# Altium integrated library Xilinx XC4000XL.IntLib: 450 symbols (part 14 of 58)
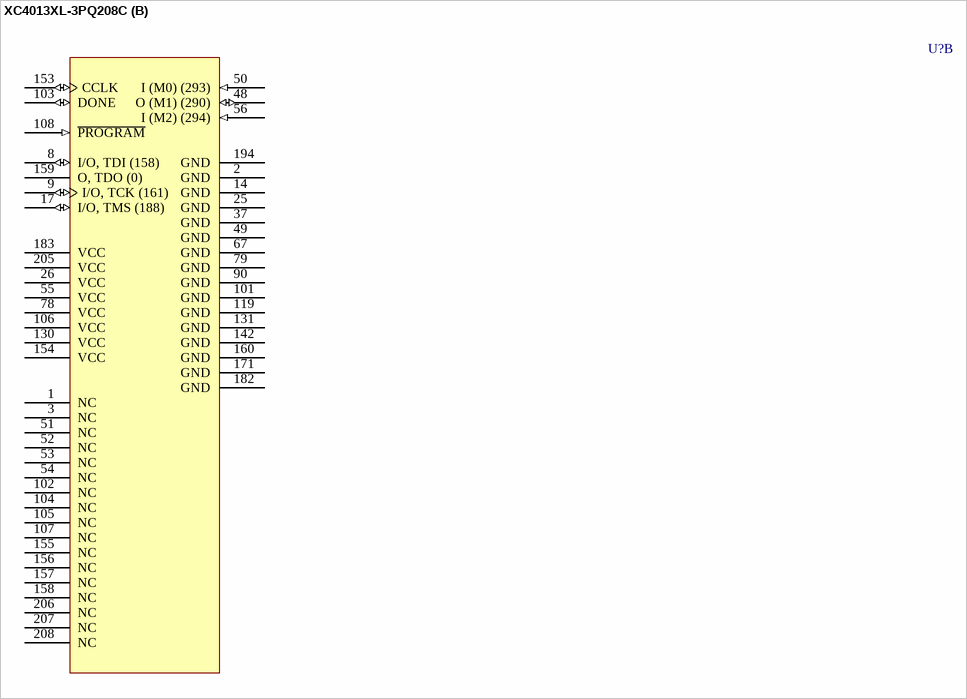
[diagram p412: symbol XC4013XL-3PQ208C]

## XC4013XL-3PQ208C
designator U?
XC4000XL FPGA, 160 I/Os, 208-Pin PQFP, Speed Grade 3, Commercial Grade; Published: 28-Feb-2003; LatestRevisionDate: 13-Apr-2006; LatestRevisionNote: IPC-7351 Footprint Added.; DatasheetVersion: ver1.6, May-1999; PackageVersion: ver1.2, Jun-2004; PackageReference: PQ208; Publisher: Altium Limited; PackageDescription: 208-Pin Plastic Quad Flat Pack (PQ208); Supplier 1: Digi-Key; Supplier Part Number 1: XC4013XL-3PQ208C-ND; Code_JEDEC: MS-029-FA-1; ComponentLink1Description: XC4000XL Datasheet; ComponentLink1URL: http://www.xilinx.com/support/documentation/data_sheets/4000.pdf; ComponentLink2Description: PQ208 Package Drawing; ComponentLink2URL: http://www.xilinx.com/support/documentation/package_specs/pq208.pdf; ComponentLink3Description: XC4000 Documents; ComponentLink3URL: http://www.xilinx.com/support/documentation/xc4000.htm; ComponentLink4Description: Xilinx.com Home; ComponentLink4URL: http://www.xilinx.com
footprint PQ208_N (Shrink QFP, 208-Leads, Body 28x28mm, Pitch 0.5mm, IPC Medium Density)
footprint PQ208_L (Shrink QFP, 208-Leads, Body 28x28mm, Pitch 0.5mm, IPC High Density)
footprint PQ208_M (Shrink QFP, 208-Leads, Body 28x28mm, Pitch 0.5mm, IPC Low Density)
part A pins: 4 I/O, GCK1 (A16) (146) (io), 5 I/O (A17) (149) (io), 6 I/O (152) (io), 7 I/O (155) (io), 10 I/O (164) (io), 11 I/O (167) (io), 12 I/O (170) (io), 13 I/O (173) (io), 15 I/O (182) (io), 16 I/O (185) (io), 18 I/O (191) (io), 19 I/O (200) (io), 20 I/O (203) (io), 21 I/O (206) (io), 22 I/O (209) (io), 23 I/O (212) (io), 24 I/O (215) (io), 27 I/O (218) (io), 28 I/O (221) (io), 29 I/O (224) (io), 30 I/O (227) (io), 31 I/O (230) (io), 32 I/O (233) (io), 33 I/O (242) (io), 34 I/O (245) (io), 35 I/O (248) (io), 36 I/O (251) (io), 38 I/O (260) (io), 39 I/O (263) (io), 40 I/O (266) (io), 41 I/O (269) (io), 42 I/O (272) (io), 43 I/O (275) (io), 44 I/O (278) (io), 45 I/O (281) (io), 46 I/O (284) (io), 47 I/O, GCK2 (287) (io), 57 I/O, GCK3 (295) (io), 58 I/O (HDC) (298) (io), 59 I/O (301) (io), 60 I/O (304) (io), 61 I/O (307) (io), 62 I/O (~{LDC}) (310) (io), 63 I/O (313) (io), 64 I/O (316) (io), 65 I/O (319) (io), 66 I/O (322) (io), 68 I/O (331) (io), 69 I/O (334) (io), 70 I/O (337) (io), 71 I/O (340) (io), 72 I/O (343) (io), 73 I/O (346) (io), 74 I/O (355) (io), 75 I/O (358) (io), 76 I/O (361) (io), 77 I/O (~{INIT}) (364) (io), 80 I/O (367) (io), 81 I/O (370) (io), 82 I/O (373) (io), 83 I/O (376) (io), 84 I/O (379) (io), 85 I/O (382) (io), 86 I/O (391) (io), 87 I/O (394) (io), 88 I/O (397) (io), 89 I/O (400) (io), 91 I/O (409) (io), 92 I/O (412) (io), 93 I/O (415) (io), 94 I/O (418) (io), 95 I/O (421) (io), 96 I/O (424) (io), 97 I/O (427) (io), 98 I/O (430) (io), 99 I/O (433) (io), 100 I/O, GCK4 (436) (io), 109 I/O (D7) (439) (io), 110 I/O, GCK5 (442) (io), 111 I/O (445) (io), 112 I/O (448) (io), 113 I/O (D6) (457) (io), 114 I/O (460) (io), 115 I/O (463) (io), 116 I/O (466) (io), 117 I/O (469) (io), 118 I/O (472) (io), 120 I/O (481) (io), 121 I/O (484) (io), 122 I/O (D5) (487) (io), 123 I/O (~{CS0}) (490) (io), 124 I/O (493) (io), 125 I/O (496) (io), 126 I/O (499) (io), 127 I/O (502) (io), 128 I/O (D4) (505) (io), 129 I/O (508) (io), 132 I/O (D3) (511) (io), 133 I/O (~{RS}) (514) (io), 134 I/O (517) (io), 135 I/O (520) (io), 136 I/O (523) (io), 137 I/O (526) (io), 138 I/O (D2) (529) (io), 139 I/O (532) (io), 140 I/O (535) (io), 141 I/O (538) (io), 143 I/O (553) (io), 144 I/O (556) (io), 145 I/O (559) (io), 146 I/O (562) (io), 147 I/O (D1) (565) (io), 148 I/O (~{RCLK}, RDY/~{BUSY}) (568) (io), 149 I/O (571) (io), 150 I/O (574) (io), 151 I/O (D0, DIN) (577) (io), 152 I/O, GCK6 (DOUT) (580) (io), 161 I/O (A0, ~{WS}) (2) (io), 162 I/O, GCK7 (A1) (5) (io), 163 I/O (8) (io), 164 I/O (11) (io), 165 I/O (CS1, A2) (14) (io), 166 I/O (A3) (17) (io), 167 I/O (26) (io), 168 I/O (29) (io), 169 I/O (32) (io), 170 I/O (35) (io), 172 I/O (38) (io), 173 I/O (41) (io), 174 I/O (A4) (50) (io), 175 I/O (A5) (53) (io), 176 I/O (56) (io), 177 I/O (59) (io), 178 I/O (A21) (62) (io), 179 I/O (A20) (65) (io), 180 I/O (A6) (68) (io), 181 I/O (A7) (71) (io), 184 I/O (A8) (74) (io), 185 I/O (A9) (77) (io), 186 I/O (A19) (80) (io), 187 I/O (A18) (83) (io), 188 I/O (86) (io), 189 I/O (89) (io), 190 I/O (A10) (92) (io), 191 I/O (A11) (95) (io), 192 I/O (104) (io), 193 I/O (107) (io), 195 I/O (110) (io), 196 I/O (113) (io), 197 I/O (116) (io), 198 I/O (119) (io), 199 I/O (A12) (122) (io), 200 I/O (A13) (125) (io), 201 I/O (134) (io), 202 I/O (137) (io), 203 I/O (A14) (140) (io), 204 I/O, GCK8 (A15) (143) (io)
part B pins: 1 NC, 2 GND (power), 3 NC, 8 I/O, TDI (158) (io), 9 I/O, TCK (161) (io), 14 GND (power), 17 I/O, TMS (188) (io), 25 GND (power), 26 VCC (power), 37 GND (power), 48 O (M1) (290) (io), 49 GND (power), 50 I (M0) (293) (in), 51 NC, 52 NC, 53 NC, 54 NC, 55 VCC (power), 56 I (M2) (294) (in), 67 GND (power), 78 VCC (power), 79 GND (power), 90 GND (power), 101 GND (power), 102 NC, 103 DONE (io), 104 NC, 105 NC, 106 VCC (power), 107 NC, 108 ~{PROGRAM} (in), 119 GND (power), 130 VCC (power), 131 GND (power), 142 GND (power), 153 CCLK (io), 154 VCC (power), 155 NC, 156 NC, 157 NC, 158 NC, 159 O, TDO (0) (hiz), 160 GND (power), 171 GND (power), 182 GND (power), 183 VCC (power), 194 GND (power), 205 VCC (power), 206 NC, 207 NC, 208 NC

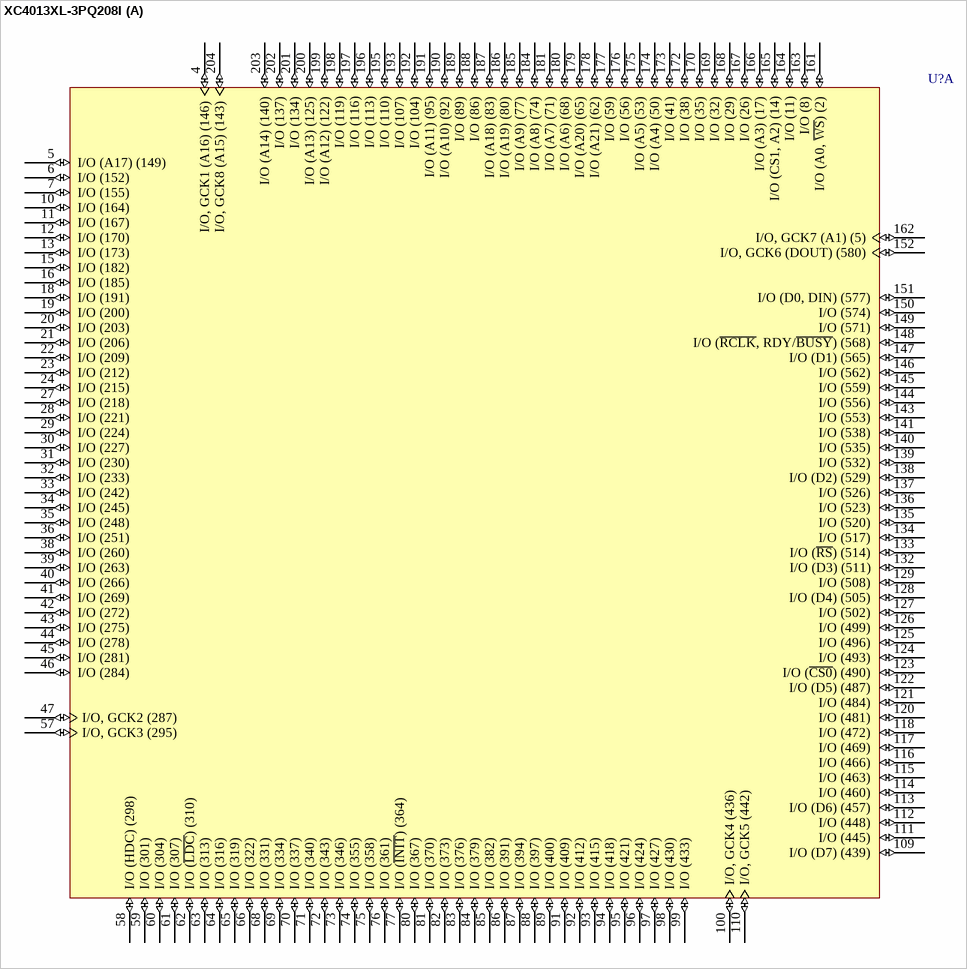
[diagram p100: symbol XC4013XL-3PQ208I]

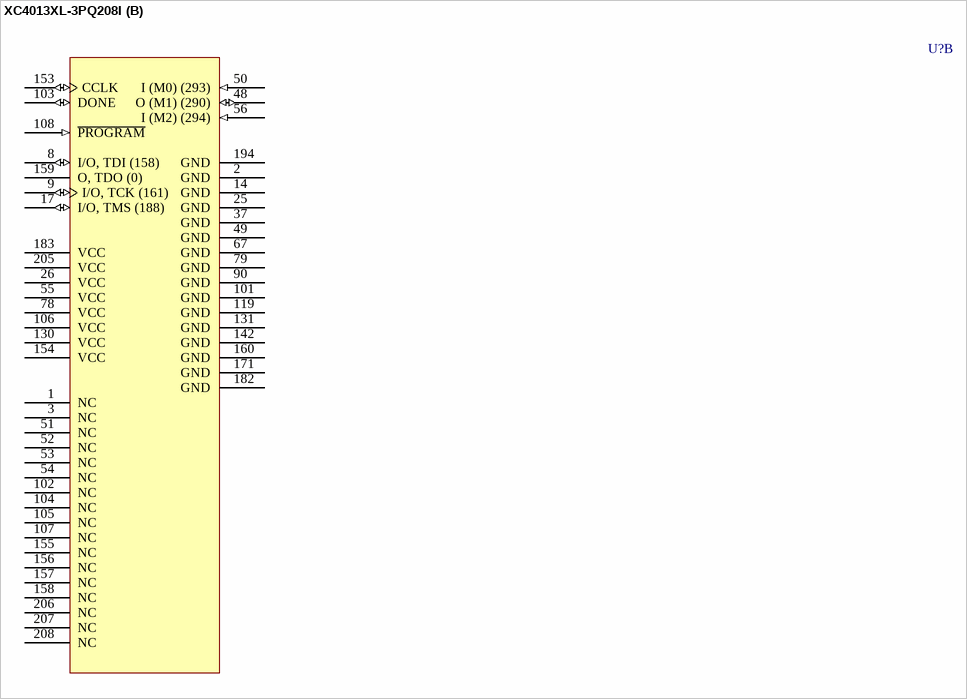
[diagram p101: symbol XC4013XL-3PQ208I]

## XC4013XL-3PQ208I
designator U?
XC4000XL FPGA, 160 I/Os, 208-Pin PQFP, Speed Grade 3, Industrial Grade; Published: 28-Feb-2003; LatestRevisionDate: 13-Apr-2006; LatestRevisionNote: IPC-7351 Footprint Added.; DatasheetVersion: ver1.6, May-1999; PackageVersion: ver1.2, Jun-2004; PackageReference: PQ208; Publisher: Altium Limited; PackageDescription: 208-Pin Plastic Quad Flat Pack (PQ208); Supplier 1: Digi-Key; Supplier Part Number 1: XC4013XL-3PQ208I-ND; Code_JEDEC: MS-029-FA-1; ComponentLink1Description: XC4000XL Datasheet; ComponentLink1URL: http://www.xilinx.com/support/documentation/data_sheets/4000.pdf; ComponentLink2Description: PQ208 Package Drawing; ComponentLink2URL: http://www.xilinx.com/support/documentation/package_specs/pq208.pdf; ComponentLink3Description: XC4000 Documents; ComponentLink3URL: http://www.xilinx.com/support/documentation/xc4000.htm; ComponentLink4Description: Xilinx.com Home; ComponentLink4URL: http://www.xilinx.com
footprint PQ208_N (Shrink QFP, 208-Leads, Body 28x28mm, Pitch 0.5mm, IPC Medium Density)
footprint PQ208_L (Shrink QFP, 208-Leads, Body 28x28mm, Pitch 0.5mm, IPC High Density)
footprint PQ208_M (Shrink QFP, 208-Leads, Body 28x28mm, Pitch 0.5mm, IPC Low Density)
part A pins: 4 I/O, GCK1 (A16) (146) (io), 5 I/O (A17) (149) (io), 6 I/O (152) (io), 7 I/O (155) (io), 10 I/O (164) (io), 11 I/O (167) (io), 12 I/O (170) (io), 13 I/O (173) (io), 15 I/O (182) (io), 16 I/O (185) (io), 18 I/O (191) (io), 19 I/O (200) (io), 20 I/O (203) (io), 21 I/O (206) (io), 22 I/O (209) (io), 23 I/O (212) (io), 24 I/O (215) (io), 27 I/O (218) (io), 28 I/O (221) (io), 29 I/O (224) (io), 30 I/O (227) (io), 31 I/O (230) (io), 32 I/O (233) (io), 33 I/O (242) (io), 34 I/O (245) (io), 35 I/O (248) (io), 36 I/O (251) (io), 38 I/O (260) (io), 39 I/O (263) (io), 40 I/O (266) (io), 41 I/O (269) (io), 42 I/O (272) (io), 43 I/O (275) (io), 44 I/O (278) (io), 45 I/O (281) (io), 46 I/O (284) (io), 47 I/O, GCK2 (287) (io), 57 I/O, GCK3 (295) (io), 58 I/O (HDC) (298) (io), 59 I/O (301) (io), 60 I/O (304) (io), 61 I/O (307) (io), 62 I/O (~{LDC}) (310) (io), 63 I/O (313) (io), 64 I/O (316) (io), 65 I/O (319) (io), 66 I/O (322) (io), 68 I/O (331) (io), 69 I/O (334) (io), 70 I/O (337) (io), 71 I/O (340) (io), 72 I/O (343) (io), 73 I/O (346) (io), 74 I/O (355) (io), 75 I/O (358) (io), 76 I/O (361) (io), 77 I/O (~{INIT}) (364) (io), 80 I/O (367) (io), 81 I/O (370) (io), 82 I/O (373) (io), 83 I/O (376) (io), 84 I/O (379) (io), 85 I/O (382) (io), 86 I/O (391) (io), 87 I/O (394) (io), 88 I/O (397) (io), 89 I/O (400) (io), 91 I/O (409) (io), 92 I/O (412) (io), 93 I/O (415) (io), 94 I/O (418) (io), 95 I/O (421) (io), 96 I/O (424) (io), 97 I/O (427) (io), 98 I/O (430) (io), 99 I/O (433) (io), 100 I/O, GCK4 (436) (io), 109 I/O (D7) (439) (io), 110 I/O, GCK5 (442) (io), 111 I/O (445) (io), 112 I/O (448) (io), 113 I/O (D6) (457) (io), 114 I/O (460) (io), 115 I/O (463) (io), 116 I/O (466) (io), 117 I/O (469) (io), 118 I/O (472) (io), 120 I/O (481) (io), 121 I/O (484) (io), 122 I/O (D5) (487) (io), 123 I/O (~{CS0}) (490) (io), 124 I/O (493) (io), 125 I/O (496) (io), 126 I/O (499) (io), 127 I/O (502) (io), 128 I/O (D4) (505) (io), 129 I/O (508) (io), 132 I/O (D3) (511) (io), 133 I/O (~{RS}) (514) (io), 134 I/O (517) (io), 135 I/O (520) (io), 136 I/O (523) (io), 137 I/O (526) (io), 138 I/O (D2) (529) (io), 139 I/O (532) (io), 140 I/O (535) (io), 141 I/O (538) (io), 143 I/O (553) (io), 144 I/O (556) (io), 145 I/O (559) (io), 146 I/O (562) (io), 147 I/O (D1) (565) (io), 148 I/O (~{RCLK}, RDY/~{BUSY}) (568) (io), 149 I/O (571) (io), 150 I/O (574) (io), 151 I/O (D0, DIN) (577) (io), 152 I/O, GCK6 (DOUT) (580) (io), 161 I/O (A0, ~{WS}) (2) (io), 162 I/O, GCK7 (A1) (5) (io), 163 I/O (8) (io), 164 I/O (11) (io), 165 I/O (CS1, A2) (14) (io), 166 I/O (A3) (17) (io), 167 I/O (26) (io), 168 I/O (29) (io), 169 I/O (32) (io), 170 I/O (35) (io), 172 I/O (38) (io), 173 I/O (41) (io), 174 I/O (A4) (50) (io), 175 I/O (A5) (53) (io), 176 I/O (56) (io), 177 I/O (59) (io), 178 I/O (A21) (62) (io), 179 I/O (A20) (65) (io), 180 I/O (A6) (68) (io), 181 I/O (A7) (71) (io), 184 I/O (A8) (74) (io), 185 I/O (A9) (77) (io), 186 I/O (A19) (80) (io), 187 I/O (A18) (83) (io), 188 I/O (86) (io), 189 I/O (89) (io), 190 I/O (A10) (92) (io), 191 I/O (A11) (95) (io), 192 I/O (104) (io), 193 I/O (107) (io), 195 I/O (110) (io), 196 I/O (113) (io), 197 I/O (116) (io), 198 I/O (119) (io), 199 I/O (A12) (122) (io), 200 I/O (A13) (125) (io), 201 I/O (134) (io), 202 I/O (137) (io), 203 I/O (A14) (140) (io), 204 I/O, GCK8 (A15) (143) (io)
part B pins: 1 NC, 2 GND (power), 3 NC, 8 I/O, TDI (158) (io), 9 I/O, TCK (161) (io), 14 GND (power), 17 I/O, TMS (188) (io), 25 GND (power), 26 VCC (power), 37 GND (power), 48 O (M1) (290) (io), 49 GND (power), 50 I (M0) (293) (in), 51 NC, 52 NC, 53 NC, 54 NC, 55 VCC (power), 56 I (M2) (294) (in), 67 GND (power), 78 VCC (power), 79 GND (power), 90 GND (power), 101 GND (power), 102 NC, 103 DONE (io), 104 NC, 105 NC, 106 VCC (power), 107 NC, 108 ~{PROGRAM} (in), 119 GND (power), 130 VCC (power), 131 GND (power), 142 GND (power), 153 CCLK (io), 154 VCC (power), 155 NC, 156 NC, 157 NC, 158 NC, 159 O, TDO (0) (hiz), 160 GND (power), 171 GND (power), 182 GND (power), 183 VCC (power), 194 GND (power), 205 VCC (power), 206 NC, 207 NC, 208 NC

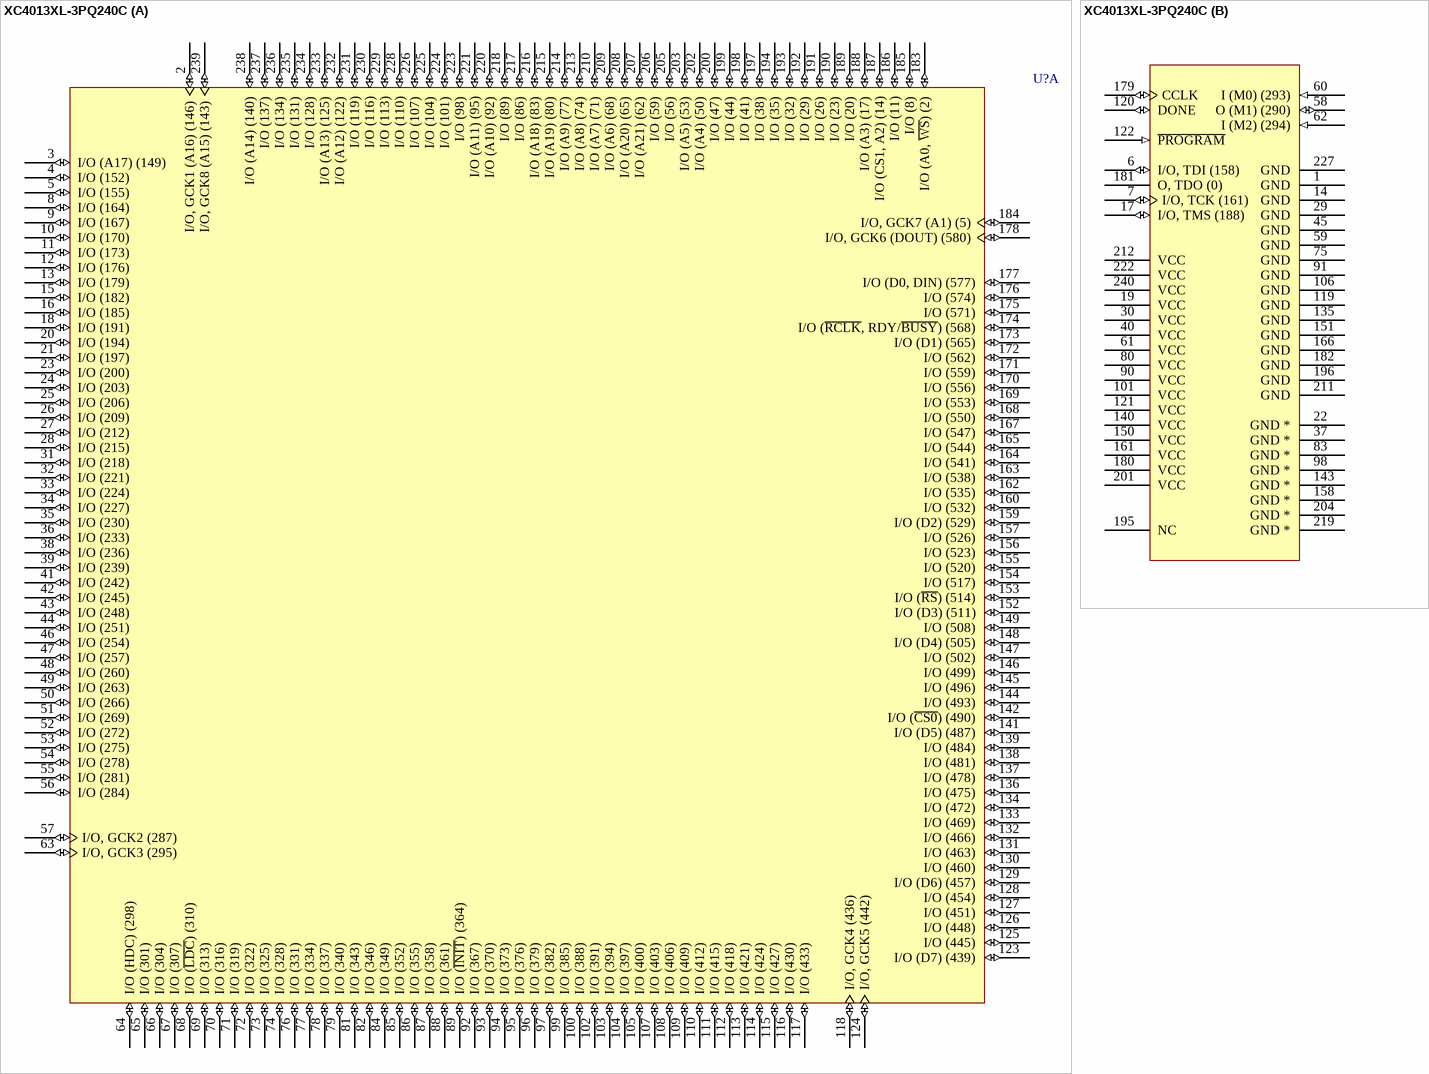
[diagram p102: symbol XC4013XL-3PQ240C]

## XC4013XL-3PQ240C
designator U?
XC4000XL FPGA, 192 I/Os, 240-Pin PQFP, Speed Grade 3, Commercial Grade; Published: 28-Feb-2003; LatestRevisionDate: 13-Apr-2006; LatestRevisionNote: IPC-7351 Footprint Added.; DatasheetVersion: ver1.6, May-1999; PackageVersion: ver1.2, Jun-2004; PackageReference: PQ240; Publisher: Altium Limited; PackageDescription: 240-Pin Plastic Quad Flat Pack (PQ240); Supplier 1: Digi-Key; Supplier Part Number 1: XC4013XL-3PQ240C-ND; Code_JEDEC: MO-143-GA; ComponentLink1Description: XC4000XL Datasheet; ComponentLink1URL: http://www.xilinx.com/support/documentation/data_sheets/4000.pdf; ComponentLink2Description: PQ240 Package Drawing; ComponentLink2URL: http://www.xilinx.com/support/documentation/package_specs/pq240.pdf; ComponentLink3Description: XC4000 Documents; ComponentLink3URL: http://www.xilinx.com/support/documentation/xc4000.htm; ComponentLink4Description: Xilinx.com Home; ComponentLink4URL: http://www.xilinx.com
footprint PQ240_N (Shrink QFP, 240-Leads, Body 32x32mm, Pitch 0.5mm, IPC Medium Density)
footprint PQ240_L (Shrink QFP, 240-Leads, Body 32x32mm, Pitch 0.5mm, IPC High Density)
footprint PQ240_M (Shrink QFP, 240-Leads, Body 32x32mm, Pitch 0.5mm, IPC Low Density)
part A pins: 2 I/O, GCK1 (A16) (146) (io), 3 I/O (A17) (149) (io), 4 I/O (152) (io), 5 I/O (155) (io), 8 I/O (164) (io), 9 I/O (167) (io), 10 I/O (170) (io), 11 I/O (173) (io), 12 I/O (176) (io), 13 I/O (179) (io), 15 I/O (182) (io), 16 I/O (185) (io), 18 I/O (191) (io), 20 I/O (194) (io), 21 I/O (197) (io), 23 I/O (200) (io), 24 I/O (203) (io), 25 I/O (206) (io), 26 I/O (209) (io), 27 I/O (212) (io), 28 I/O (215) (io), 31 I/O (218) (io), 32 I/O (221) (io), 33 I/O (224) (io), 34 I/O (227) (io), 35 I/O (230) (io), 36 I/O (233) (io), 38 I/O (236) (io), 39 I/O (239) (io), 41 I/O (242) (io), 42 I/O (245) (io), 43 I/O (248) (io), 44 I/O (251) (io), 46 I/O (254) (io), 47 I/O (257) (io), 48 I/O (260) (io), 49 I/O (263) (io), 50 I/O (266) (io), 51 I/O (269) (io), 52 I/O (272) (io), 53 I/O (275) (io), 54 I/O (278) (io), 55 I/O (281) (io), 56 I/O (284) (io), 57 I/O, GCK2 (287) (io), 63 I/O, GCK3 (295) (io), 64 I/O (HDC) (298) (io), 65 I/O (301) (io), 66 I/O (304) (io), 67 I/O (307) (io), 68 I/O (~{LDC}) (310) (io), 69 I/O (313) (io), 70 I/O (316) (io), 71 I/O (319) (io), 72 I/O (322) (io), 73 I/O (325) (io), 74 I/O (328) (io), 76 I/O (331) (io), 77 I/O (334) (io), 78 I/O (337) (io), 79 I/O (340) (io), 81 I/O (343) (io), 82 I/O (346) (io), 84 I/O (349) (io), 85 I/O (352) (io), 86 I/O (355) (io), 87 I/O (358) (io), 88 I/O (361) (io), 89 I/O (~{INIT}) (364) (io), 92 I/O (367) (io), 93 I/O (370) (io), 94 I/O (373) (io), 95 I/O (376) (io), 96 I/O (379) (io), 97 I/O (382) (io), 99 I/O (385) (io), 100 I/O (388) (io), 102 I/O (391) (io), 103 I/O (394) (io), 104 I/O (397) (io), 105 I/O (400) (io), 107 I/O (403) (io), 108 I/O (406) (io), 109 I/O (409) (io), 110 I/O (412) (io), 111 I/O (415) (io), 112 I/O (418) (io), 113 I/O (421) (io), 114 I/O (424) (io), 115 I/O (427) (io), 116 I/O (430) (io), 117 I/O (433) (io), 118 I/O, GCK4 (436) (io), 123 I/O (D7) (439) (io), 124 I/O, GCK5 (442) (io), 125 I/O (445) (io), 126 I/O (448) (io), 127 I/O (451) (io), 128 I/O (454) (io), 129 I/O (D6) (457) (io), 130 I/O (460) (io), 131 I/O (463) (io), 132 I/O (466) (io), 133 I/O (469) (io), 134 I/O (472) (io), 136 I/O (475) (io), 137 I/O (478) (io), 138 I/O (481) (io), 139 I/O (484) (io), 141 I/O (D5) (487) (io), 142 I/O (~{CS0}) (490) (io), 144 I/O (493) (io), 145 I/O (496) (io), 146 I/O (499) (io), 147 I/O (502) (io), 148 I/O (D4) (505) (io), 149 I/O (508) (io), 152 I/O (D3) (511) (io), 153 I/O (~{RS}) (514) (io), 154 I/O (517) (io), 155 I/O (520) (io), 156 I/O (523) (io), 157 I/O (526) (io), 159 I/O (D2) (529) (io), 160 I/O (532) (io), 162 I/O (535) (io), 163 I/O (538) (io), 164 I/O (541) (io), 165 I/O (544) (io), 167 I/O (547) (io), 168 I/O (550) (io), 169 I/O (553) (io), 170 I/O (556) (io), 171 I/O (559) (io), 172 I/O (562) (io), 173 I/O (D1) (565) (io), 174 I/O (~{RCLK}, RDY/~{BUSY}) (568) (io), 175 I/O (571) (io), 176 I/O (574) (io), 177 I/O (D0, DIN) (577) (io), 178 I/O, GCK6 (DOUT) (580) (io), 183 I/O (A0, ~{WS}) (2) (io), 184 I/O, GCK7 (A1) (5) (io), 185 I/O (8) (io), 186 I/O (11) (io), 187 I/O (CS1, A2) (14) (io), 188 I/O (A3) (17) (io), 189 I/O (20) (io), 190 I/O (23) (io), 191 I/O (26) (io), 192 I/O (29) (io), 193 I/O (32) (io), 194 I/O (35) (io), 197 I/O (38) (io), 198 I/O (41) (io), 199 I/O (44) (io), 200 I/O (47) (io), 202 I/O (A4) (50) (io), 203 I/O (A5) (53) (io), 205 I/O (56) (io), 206 I/O (59) (io), 207 I/O (A21) (62) (io), 208 I/O (A20) (65) (io), 209 I/O (A6) (68) (io), 210 I/O (A7) (71) (io), 213 I/O (A8) (74) (io), 214 I/O (A9) (77) (io), 215 I/O (A19) (80) (io), 216 I/O (A18) (83) (io), 217 I/O (86) (io), 218 I/O (89) (io), 220 I/O (A10) (92) (io), 221 I/O (A11) (95) (io), 223 I/O (98) (io), 224 I/O (101) (io), 225 I/O (104) (io), 226 I/O (107) (io), 228 I/O (110) (io), 229 I/O (113) (io), 230 I/O (116) (io), 231 I/O (119) (io), 232 I/O (A12) (122) (io), 233 I/O (A13) (125) (io), 234 I/O (128) (io), 235 I/O (131) (io), 236 I/O (134) (io), 237 I/O (137) (io), 238 I/O (A14) (140) (io), 239 I/O, GCK8 (A15) (143) (io)
part B pins: 1 GND (power), 6 I/O, TDI (158) (io), 7 I/O, TCK (161) (io), 14 GND (power), 17 I/O, TMS (188) (io), 19 VCC (power), 22 GND * (power), 29 GND (power), 30 VCC (power), 37 GND * (power), 40 VCC (power), 45 GND (power), 58 O (M1) (290) (io), 59 GND (power), 60 I (M0) (293) (in), 61 VCC (power), 62 I (M2) (294) (in), 75 GND (power), 80 VCC (power), 83 GND * (power), 90 VCC (power), 91 GND (power), 98 GND * (power), 101 VCC (power), 106 GND (power), 119 GND (power), 120 DONE (io), 121 VCC (power), 122 ~{PROGRAM} (in), 135 GND (power), 140 VCC (power), 143 GND * (power), 150 VCC (power), 151 GND (power), 158 GND * (power), 161 VCC (power), 166 GND (power), 179 CCLK (io), 180 VCC (power), 181 O, TDO (0) (hiz), 182 GND (power), 195 NC, 196 GND (power), 201 VCC (power), 204 GND * (power), 211 GND (power), 212 VCC (power), 219 GND * (power), 222 VCC (power), 227 GND (power), 240 VCC (power)

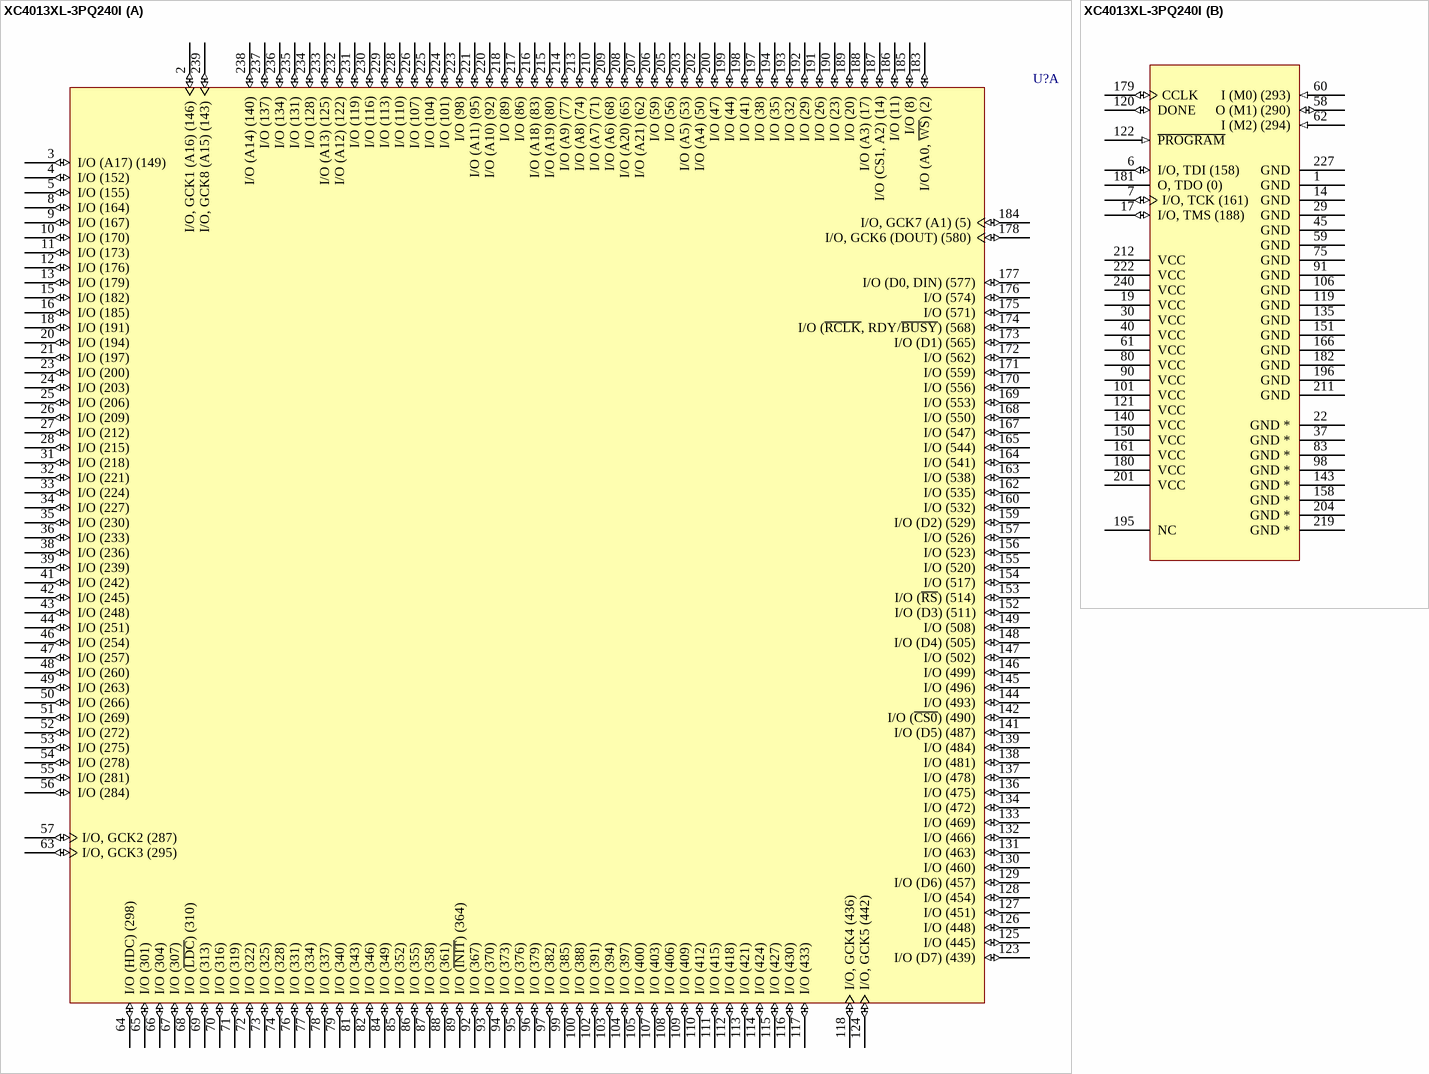
[diagram p103: symbol XC4013XL-3PQ240I]

## XC4013XL-3PQ240I
designator U?
XC4000XL FPGA, 192 I/Os, 240-Pin PQFP, Speed Grade 3, Industrial Grade; Published: 28-Feb-2003; LatestRevisionDate: 13-Apr-2006; LatestRevisionNote: IPC-7351 Footprint Added.; DatasheetVersion: ver1.6, May-1999; PackageVersion: ver1.2, Jun-2004; PackageReference: PQ240; Publisher: Altium Limited; PackageDescription: 240-Pin Plastic Quad Flat Pack (PQ240); Supplier 1: Digi-Key; Supplier Part Number 1: XC4013XL-3PQ240I-ND; Code_JEDEC: MO-143-GA; ComponentLink1Description: XC4000XL Datasheet; ComponentLink1URL: http://www.xilinx.com/support/documentation/data_sheets/4000.pdf; ComponentLink2Description: PQ240 Package Drawing; ComponentLink2URL: http://www.xilinx.com/support/documentation/package_specs/pq240.pdf; ComponentLink3Description: XC4000 Documents; ComponentLink3URL: http://www.xilinx.com/support/documentation/xc4000.htm; ComponentLink4Description: Xilinx.com Home; ComponentLink4URL: http://www.xilinx.com
footprint PQ240_N (Shrink QFP, 240-Leads, Body 32x32mm, Pitch 0.5mm, IPC Medium Density)
footprint PQ240_L (Shrink QFP, 240-Leads, Body 32x32mm, Pitch 0.5mm, IPC High Density)
footprint PQ240_M (Shrink QFP, 240-Leads, Body 32x32mm, Pitch 0.5mm, IPC Low Density)
part A pins: 2 I/O, GCK1 (A16) (146) (io), 3 I/O (A17) (149) (io), 4 I/O (152) (io), 5 I/O (155) (io), 8 I/O (164) (io), 9 I/O (167) (io), 10 I/O (170) (io), 11 I/O (173) (io), 12 I/O (176) (io), 13 I/O (179) (io), 15 I/O (182) (io), 16 I/O (185) (io), 18 I/O (191) (io), 20 I/O (194) (io), 21 I/O (197) (io), 23 I/O (200) (io), 24 I/O (203) (io), 25 I/O (206) (io), 26 I/O (209) (io), 27 I/O (212) (io), 28 I/O (215) (io), 31 I/O (218) (io), 32 I/O (221) (io), 33 I/O (224) (io), 34 I/O (227) (io), 35 I/O (230) (io), 36 I/O (233) (io), 38 I/O (236) (io), 39 I/O (239) (io), 41 I/O (242) (io), 42 I/O (245) (io), 43 I/O (248) (io), 44 I/O (251) (io), 46 I/O (254) (io), 47 I/O (257) (io), 48 I/O (260) (io), 49 I/O (263) (io), 50 I/O (266) (io), 51 I/O (269) (io), 52 I/O (272) (io), 53 I/O (275) (io), 54 I/O (278) (io), 55 I/O (281) (io), 56 I/O (284) (io), 57 I/O, GCK2 (287) (io), 63 I/O, GCK3 (295) (io), 64 I/O (HDC) (298) (io), 65 I/O (301) (io), 66 I/O (304) (io), 67 I/O (307) (io), 68 I/O (~{LDC}) (310) (io), 69 I/O (313) (io), 70 I/O (316) (io), 71 I/O (319) (io), 72 I/O (322) (io), 73 I/O (325) (io), 74 I/O (328) (io), 76 I/O (331) (io), 77 I/O (334) (io), 78 I/O (337) (io), 79 I/O (340) (io), 81 I/O (343) (io), 82 I/O (346) (io), 84 I/O (349) (io), 85 I/O (352) (io), 86 I/O (355) (io), 87 I/O (358) (io), 88 I/O (361) (io), 89 I/O (~{INIT}) (364) (io), 92 I/O (367) (io), 93 I/O (370) (io), 94 I/O (373) (io), 95 I/O (376) (io), 96 I/O (379) (io), 97 I/O (382) (io), 99 I/O (385) (io), 100 I/O (388) (io), 102 I/O (391) (io), 103 I/O (394) (io), 104 I/O (397) (io), 105 I/O (400) (io), 107 I/O (403) (io), 108 I/O (406) (io), 109 I/O (409) (io), 110 I/O (412) (io), 111 I/O (415) (io), 112 I/O (418) (io), 113 I/O (421) (io), 114 I/O (424) (io), 115 I/O (427) (io), 116 I/O (430) (io), 117 I/O (433) (io), 118 I/O, GCK4 (436) (io), 123 I/O (D7) (439) (io), 124 I/O, GCK5 (442) (io), 125 I/O (445) (io), 126 I/O (448) (io), 127 I/O (451) (io), 128 I/O (454) (io), 129 I/O (D6) (457) (io), 130 I/O (460) (io), 131 I/O (463) (io), 132 I/O (466) (io), 133 I/O (469) (io), 134 I/O (472) (io), 136 I/O (475) (io), 137 I/O (478) (io), 138 I/O (481) (io), 139 I/O (484) (io), 141 I/O (D5) (487) (io), 142 I/O (~{CS0}) (490) (io), 144 I/O (493) (io), 145 I/O (496) (io), 146 I/O (499) (io), 147 I/O (502) (io), 148 I/O (D4) (505) (io), 149 I/O (508) (io), 152 I/O (D3) (511) (io), 153 I/O (~{RS}) (514) (io), 154 I/O (517) (io), 155 I/O (520) (io), 156 I/O (523) (io), 157 I/O (526) (io), 159 I/O (D2) (529) (io), 160 I/O (532) (io), 162 I/O (535) (io), 163 I/O (538) (io), 164 I/O (541) (io), 165 I/O (544) (io), 167 I/O (547) (io), 168 I/O (550) (io), 169 I/O (553) (io), 170 I/O (556) (io), 171 I/O (559) (io), 172 I/O (562) (io), 173 I/O (D1) (565) (io), 174 I/O (~{RCLK}, RDY/~{BUSY}) (568) (io), 175 I/O (571) (io), 176 I/O (574) (io), 177 I/O (D0, DIN) (577) (io), 178 I/O, GCK6 (DOUT) (580) (io), 183 I/O (A0, ~{WS}) (2) (io), 184 I/O, GCK7 (A1) (5) (io), 185 I/O (8) (io), 186 I/O (11) (io), 187 I/O (CS1, A2) (14) (io), 188 I/O (A3) (17) (io), 189 I/O (20) (io), 190 I/O (23) (io), 191 I/O (26) (io), 192 I/O (29) (io), 193 I/O (32) (io), 194 I/O (35) (io), 197 I/O (38) (io), 198 I/O (41) (io), 199 I/O (44) (io), 200 I/O (47) (io), 202 I/O (A4) (50) (io), 203 I/O (A5) (53) (io), 205 I/O (56) (io), 206 I/O (59) (io), 207 I/O (A21) (62) (io), 208 I/O (A20) (65) (io), 209 I/O (A6) (68) (io), 210 I/O (A7) (71) (io), 213 I/O (A8) (74) (io), 214 I/O (A9) (77) (io), 215 I/O (A19) (80) (io), 216 I/O (A18) (83) (io), 217 I/O (86) (io), 218 I/O (89) (io), 220 I/O (A10) (92) (io), 221 I/O (A11) (95) (io), 223 I/O (98) (io), 224 I/O (101) (io), 225 I/O (104) (io), 226 I/O (107) (io), 228 I/O (110) (io), 229 I/O (113) (io), 230 I/O (116) (io), 231 I/O (119) (io), 232 I/O (A12) (122) (io), 233 I/O (A13) (125) (io), 234 I/O (128) (io), 235 I/O (131) (io), 236 I/O (134) (io), 237 I/O (137) (io), 238 I/O (A14) (140) (io), 239 I/O, GCK8 (A15) (143) (io)
part B pins: 1 GND (power), 6 I/O, TDI (158) (io), 7 I/O, TCK (161) (io), 14 GND (power), 17 I/O, TMS (188) (io), 19 VCC (power), 22 GND * (power), 29 GND (power), 30 VCC (power), 37 GND * (power), 40 VCC (power), 45 GND (power), 58 O (M1) (290) (io), 59 GND (power), 60 I (M0) (293) (in), 61 VCC (power), 62 I (M2) (294) (in), 75 GND (power), 80 VCC (power), 83 GND * (power), 90 VCC (power), 91 GND (power), 98 GND * (power), 101 VCC (power), 106 GND (power), 119 GND (power), 120 DONE (io), 121 VCC (power), 122 ~{PROGRAM} (in), 135 GND (power), 140 VCC (power), 143 GND * (power), 150 VCC (power), 151 GND (power), 158 GND * (power), 161 VCC (power), 166 GND (power), 179 CCLK (io), 180 VCC (power), 181 O, TDO (0) (hiz), 182 GND (power), 195 NC, 196 GND (power), 201 VCC (power), 204 GND * (power), 211 GND (power), 212 VCC (power), 219 GND * (power), 222 VCC (power), 227 GND (power), 240 VCC (power)

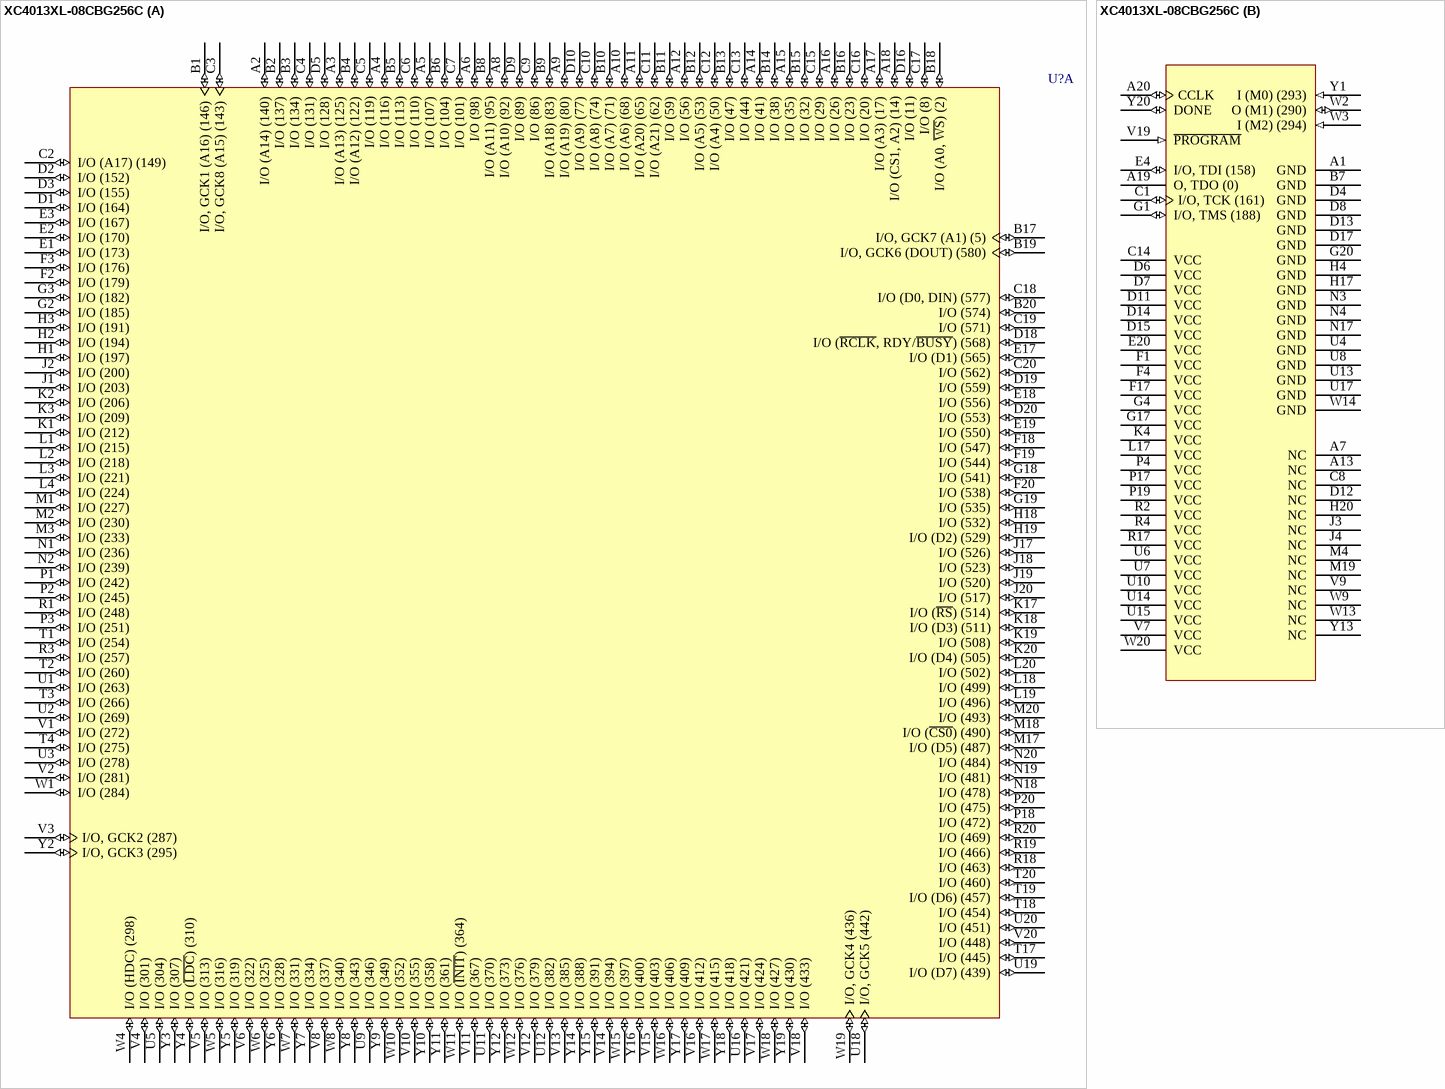
[diagram p104: symbol XC4013XL-08CBG256C]

## XC4013XL-08CBG256C
designator U?
XC4000XL FPGA, 192 I/Os, 256-Ball BGA, Speed Grade 8, Commercial Grade; Published: 28-Feb-2003; LatestRevisionDate: 13-Apr-2006; LatestRevisionNote: IPC-7351 Footprint Added.; DatasheetVersion: ver1.6, May-1999; PackageVersion: ver1.2, Apr-2006; PackageReference: BG256; Publisher: Altium Limited; PackageDescription: 256-Ball Plastic Ball Grid Array (BG256); Code_JEDEC: MS-034-BAL-2; ComponentLink1Description: XC4000XL Datasheet; ComponentLink1URL: http://www.xilinx.com/support/documentation/data_sheets/4000.pdf; ComponentLink2Description: Discontinuation Notice; ComponentLink2URL: http://www.xilinx.com/support/documentation/customer_notices/pdn2001-03.pdf; ComponentLink3Description: BG256 Package Drawing; ComponentLink3URL: http://www.xilinx.com/support/documentation/package_specs/bg256.pdf; ComponentLink4Description: XC4000 Documents; ComponentLink4URL: http://www.xilinx.com/support/documentation/xc4000.htm; ComponentLink5Description: Xilinx.com Home; ComponentLink5URL: http://www.xilinx.com
footprint BG256 (BGA, 256-Leads, Body 27x27mm, Pitch 1.27mm)
part A pins: A2 I/O (A14) (140) (io), A3 I/O (A13) (125) (io), A4 I/O (116) (io), A5 I/O (107) (io), A6 I/O (98) (io), A8 I/O (A10) (92) (io), A9 I/O (A19) (80) (io), A10 I/O (A6) (68) (io), A11 I/O (A20) (65) (io), A12 I/O (56) (io), A14 I/O (41) (io), A15 I/O (35) (io), A16 I/O (26) (io), A17 I/O (A3) (17) (io), A18 I/O (CS1, A2) (14) (io), B1 I/O, GCK1 (A16) (146) (io), B2 I/O (137) (io), B3 I/O (134) (io), B4 I/O (A12) (122) (io), B5 I/O (113) (io), B6 I/O (104) (io), B8 I/O (A11) (95) (io), B9 I/O (A18) (83) (io), B10 I/O (A7) (71) (io), B11 I/O (59) (io), B12 I/O (A5) (53) (io), B13 I/O (47) (io), B14 I/O (38) (io), B15 I/O (32) (io), B16 I/O (23) (io), B17 I/O, GCK7 (A1) (5) (io), B18 I/O (A0, ~{WS}) (2) (io), B19 I/O, GCK6 (DOUT) (580) (io), B20 I/O (574) (io), C2 I/O (A17) (149) (io), C3 I/O, GCK8 (A15) (143) (io), C4 I/O (131) (io), C5 I/O (119) (io), C6 I/O (110) (io), C7 I/O (101) (io), C9 I/O (86) (io), C10 I/O (A8) (74) (io), C11 I/O (A21) (62) (io), C12 I/O (A4) (50) (io), C13 I/O (44) (io), C15 I/O (29) (io), C16 I/O (20) (io), C17 I/O (8) (io), C18 I/O (D0, DIN) (577) (io), C19 I/O (571) (io), C20 I/O (562) (io), D1 I/O (164) (io), D2 I/O (152) (io), D3 I/O (155) (io), D5 I/O (128) (io), D9 I/O (89) (io), D10 I/O (A9) (77) (io), D16 I/O (11) (io), D18 I/O (~{RCLK}, RDY/~{BUSY}) (568) (io), D19 I/O (559) (io), D20 I/O (553) (io), E1 I/O (173) (io), E2 I/O (170) (io), E3 I/O (167) (io), E17 I/O (D1) (565) (io), E18 I/O (556) (io), E19 I/O (550) (io), F2 I/O (179) (io), F3 I/O (176) (io), F18 I/O (547) (io), F19 I/O (544) (io), F20 I/O (538) (io), G2 I/O (185) (io), G3 I/O (182) (io), G18 I/O (541) (io), G19 I/O (535) (io), H1 I/O (197) (io), H2 I/O (194) (io), H3 I/O (191) (io), H18 I/O (532) (io), H19 I/O (D2) (529) (io), J1 I/O (203) (io), J2 I/O (200) (io), J17 I/O (526) (io), J18 I/O (523) (io), J19 I/O (520) (io), J20 I/O (517) (io), K1 I/O (212) (io), K2 I/O (206) (io), K3 I/O (209) (io), K17 I/O (~{RS}) (514) (io), K18 I/O (D3) (511) (io), K19 I/O (508) (io), K20 I/O (D4) (505) (io), L1 I/O (215) (io), L2 I/O (218) (io), L3 I/O (221) (io), L4 I/O (224) (io), L18 I/O (499) (io), L19 I/O (496) (io), L20 I/O (502) (io), M1 I/O (227) (io), M2 I/O (230) (io), M3 I/O (233) (io), M17 I/O (D5) (487) (io), M18 I/O (~{CS0}) (490) (io), M20 I/O (493) (io), N1 I/O (236) (io), N2 I/O (239) (io), N18 I/O (478) (io), N19 I/O (481) (io), N20 I/O (484) (io), P1 I/O (242) (io), P2 I/O (245) (io), P3 I/O (251) (io), P18 I/O (472) (io), P20 I/O (475) (io), R1 I/O (248) (io), R3 I/O (257) (io), R18 I/O (463) (io), R19 I/O (466) (io), R20 I/O (469) (io), T1 I/O (254) (io), T2 I/O (260) (io), T3 I/O (266) (io), T4 I/O (275) (io), T17 I/O (445) (io), T18 I/O (454) (io), T19 I/O (D6) (457) (io), T20 I/O (460) (io), U1 I/O (263) (io), U2 I/O (269) (io), U3 I/O (278) (io), U5 I/O (304) (io), U9 I/O (346) (io), U11 I/O (370) (io), U12 I/O (382) (io), U16 I/O (421) (io), U18 I/O, GCK5 (442) (io), U19 I/O (D7) (439) (io), U20 I/O (451) (io), V1 I/O (272) (io), V2 I/O (281) (io), V3 I/O, GCK2 (287) (io), V4 I/O (301) (io), V5 I/O (313) (io), V6 I/O (322) (io), V8 I/O (337) (io), V10 I/O (355) (io), V11 I/O (367) (io), V12 I/O (379) (io), V13 I/O (385) (io), V14 I/O (394) (io), V15 I/O (403) (io), V16 I/O (412) (io), V17 I/O (424) (io), V18 I/O (433) (io), V20 I/O (448) (io), W1 I/O (284) (io), W4 I/O (HDC) (298) (io), W5 I/O (316) (io), W6 I/O (325) (io), W7 I/O (331) (io), W8 I/O (340) (io), W10 I/O (352) (io), W11 I/O (~{INIT}) (364) (io), W12 I/O (376) (io), W15 I/O (397) (io), W16 I/O (406) (io), W17 I/O (415) (io), W18 I/O (427) (io), W19 I/O, GCK4 (436) (io), Y2 I/O, GCK3 (295) (io), Y3 I/O (307) (io), Y4 I/O (~{LDC}) (310) (io), Y5 I/O (319) (io), Y6 I/O (328) (io), Y7 I/O (334) (io), Y8 I/O (343) (io), Y9 I/O (349) (io), Y10 I/O (358) (io), Y11 I/O (361) (io), Y12 I/O (373) (io), Y14 I/O (388) (io), Y15 I/O (391) (io), Y16 I/O (400) (io), Y17 I/O (409) (io), Y18 I/O (418) (io), Y19 I/O (430) (io)
part B pins: A1 GND (power), A7 NC, A13 NC, A19 O, TDO (0) (hiz), A20 CCLK (io), B7 GND (power), C1 I/O, TCK (161) (io), C8 NC, C14 VCC (power), D4 GND (power), D6 VCC (power), D7 VCC (power), D8 GND (power), D11 VCC (power), D12 NC, D13 GND (power), D14 VCC (power), D15 VCC (power), D17 GND (power), E4 I/O, TDI (158) (io), E20 VCC (power), F1 VCC (power), F4 VCC (power), F17 VCC (power), G1 I/O, TMS (188) (io), G4 VCC (power), G17 VCC (power), G20 GND (power), H4 GND (power), H17 GND (power), H20 NC, J3 NC, J4 NC, K4 VCC (power), L17 VCC (power), M4 NC, M19 NC, N3 GND (power), N4 GND (power), N17 GND (power), P4 VCC (power), P17 VCC (power), P19 VCC (power), R2 VCC (power), R4 VCC (power), R17 VCC (power), U4 GND (power), U6 VCC (power), U7 VCC (power), U8 GND (power), U10 VCC (power), U13 GND (power), U14 VCC (power), U15 VCC (power), U17 GND (power), V7 VCC (power), V9 NC, V19 ~{PROGRAM} (in), W2 O (M1) (290) (io), W3 I (M2) (294) (in), W9 NC, W13 NC, W14 GND (power), W20 VCC (power), Y1 I (M0) (293) (in), Y13 NC, Y20 DONE (io)

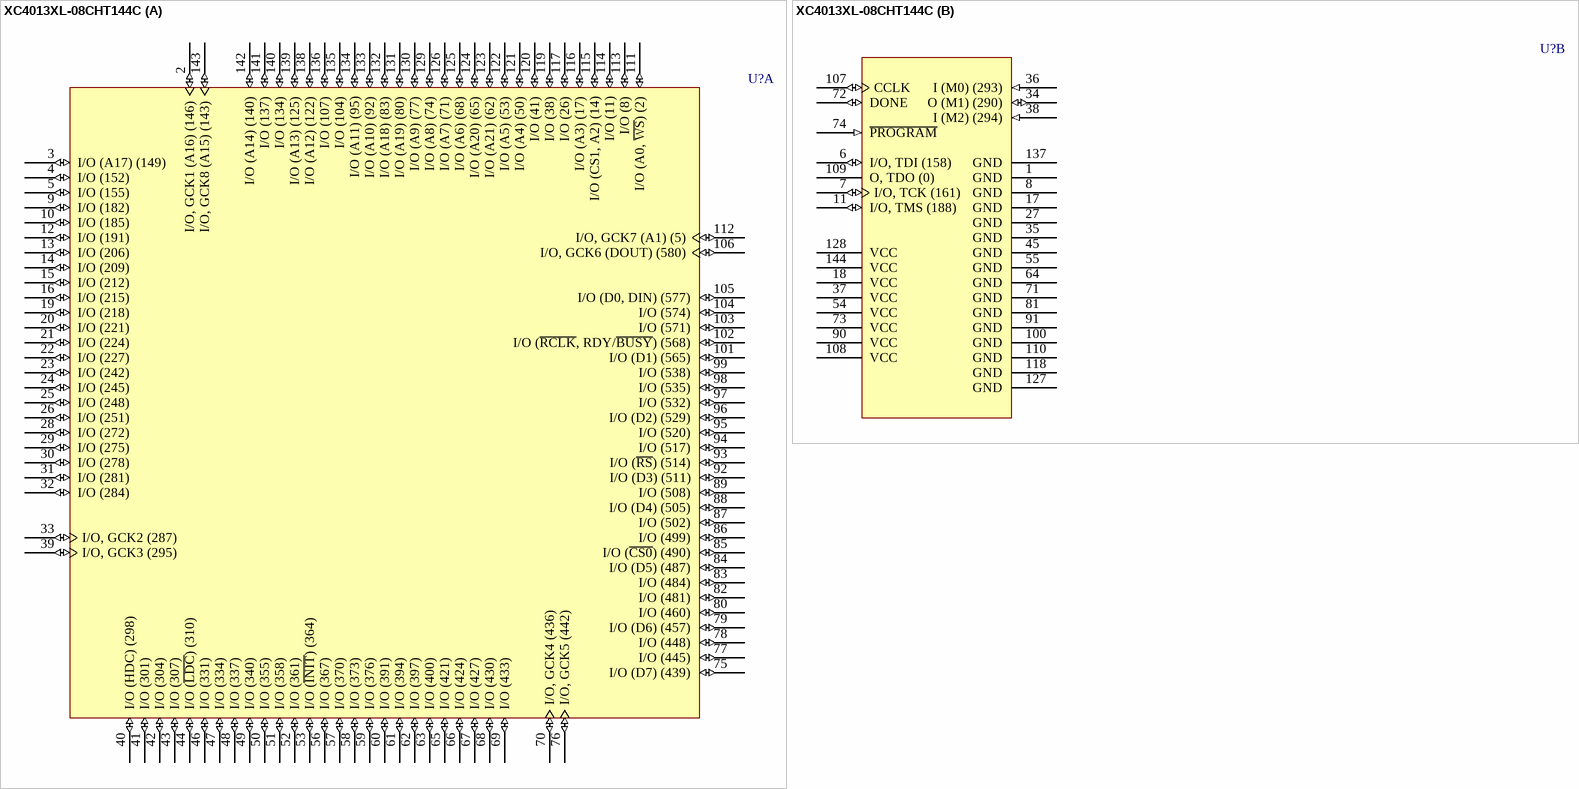
[diagram p105: symbol XC4013XL-08CHT144C]

## XC4013XL-08CHT144C
designator U?
XC4000XL FPGA, 113 I/Os, 144-Pin HTQFP, Speed Grade 8, Commercial Grade; Published: 28-Feb-2003; LatestRevisionDate: 13-Apr-2006; LatestRevisionNote: IPC-7351 Footprint Added.; DatasheetVersion: ver1.6, May-1999; PackageVersion: ver1.2, Jun-2004; PackageReference: HT144; Publisher: Altium Limited; PackageDescription: 144-Pin Heat Sink Thin Quad Flat Pack (HT144); ComponentLink1Description: XC4000XL Datasheet; ComponentLink1URL: http://www.xilinx.com/support/documentation/data_sheets/4000.pdf; ComponentLink2Description: Discontinuation Notice; ComponentLink2URL: http://www.xilinx.com/support/documentation/customer_notices/pdn2001-03.pdf; ComponentLink3Description: HT144 Package Drawing; ComponentLink3URL: http://www.xilinx.com/support/documentation/package_specs/ht144.pdf; ComponentLink4Description: XC4000 Documents; ComponentLink4URL: http://www.xilinx.com/support/documentation/xc4000.htm; ComponentLink5Description: Xilinx.com Home; ComponentLink5URL: http://www.xilinx.com
footprint HT144_N (Thin QFP, 144-Leads, Body 20x20mm, Pitch 0.5mm, IPC Medium Density)
footprint HT144_L (Thin QFP, 144-Leads, Body 20x20mm, Pitch 0.5mm, IPC High Density)
footprint HT144_M (Thin QFP, 144-Leads, Body 20x20mm, Pitch 0.5mm, IPC Low Density)
part A pins: 2 I/O, GCK1 (A16) (146) (io), 3 I/O (A17) (149) (io), 4 I/O (152) (io), 5 I/O (155) (io), 9 I/O (182) (io), 10 I/O (185) (io), 12 I/O (191) (io), 13 I/O (206) (io), 14 I/O (209) (io), 15 I/O (212) (io), 16 I/O (215) (io), 19 I/O (218) (io), 20 I/O (221) (io), 21 I/O (224) (io), 22 I/O (227) (io), 23 I/O (242) (io), 24 I/O (245) (io), 25 I/O (248) (io), 26 I/O (251) (io), 28 I/O (272) (io), 29 I/O (275) (io), 30 I/O (278) (io), 31 I/O (281) (io), 32 I/O (284) (io), 33 I/O, GCK2 (287) (io), 39 I/O, GCK3 (295) (io), 40 I/O (HDC) (298) (io), 41 I/O (301) (io), 42 I/O (304) (io), 43 I/O (307) (io), 44 I/O (~{LDC}) (310) (io), 46 I/O (331) (io), 47 I/O (334) (io), 48 I/O (337) (io), 49 I/O (340) (io), 50 I/O (355) (io), 51 I/O (358) (io), 52 I/O (361) (io), 53 I/O (~{INIT}) (364) (io), 56 I/O (367) (io), 57 I/O (370) (io), 58 I/O (373) (io), 59 I/O (376) (io), 60 I/O (391) (io), 61 I/O (394) (io), 62 I/O (397) (io), 63 I/O (400) (io), 65 I/O (421) (io), 66 I/O (424) (io), 67 I/O (427) (io), 68 I/O (430) (io), 69 I/O (433) (io), 70 I/O, GCK4 (436) (io), 75 I/O (D7) (439) (io), 76 I/O, GCK5 (442) (io), 77 I/O (445) (io), 78 I/O (448) (io), 79 I/O (D6) (457) (io), 80 I/O (460) (io), 82 I/O (481) (io), 83 I/O (484) (io), 84 I/O (D5) (487) (io), 85 I/O (~{CS0}) (490) (io), 86 I/O (499) (io), 87 I/O (502) (io), 88 I/O (D4) (505) (io), 89 I/O (508) (io), 92 I/O (D3) (511) (io), 93 I/O (~{RS}) (514) (io), 94 I/O (517) (io), 95 I/O (520) (io), 96 I/O (D2) (529) (io), 97 I/O (532) (io), 98 I/O (535) (io), 99 I/O (538) (io), 101 I/O (D1) (565) (io), 102 I/O (~{RCLK}, RDY/~{BUSY}) (568) (io), 103 I/O (571) (io), 104 I/O (574) (io), 105 I/O (D0, DIN) (577) (io), 106 I/O, GCK6 (DOUT) (580) (io), 111 I/O (A0, ~{WS}) (2) (io), 112 I/O, GCK7 (A1) (5) (io), 113 I/O (8) (io), 114 I/O (11) (io), 115 I/O (CS1, A2) (14) (io), 116 I/O (A3) (17) (io), 117 I/O (26) (io), 119 I/O (38) (io), 120 I/O (41) (io), 121 I/O (A4) (50) (io), 122 I/O (A5) (53) (io), 123 I/O (A21) (62) (io), 124 I/O (A20) (65) (io), 125 I/O (A6) (68) (io), 126 I/O (A7) (71) (io), 129 I/O (A8) (74) (io), 130 I/O (A9) (77) (io), 131 I/O (A19) (80) (io), 132 I/O (A18) (83) (io), 133 I/O (A10) (92) (io), 134 I/O (A11) (95) (io), 135 I/O (104) (io), 136 I/O (107) (io), 138 I/O (A12) (122) (io), 139 I/O (A13) (125) (io), 140 I/O (134) (io), 141 I/O (137) (io), 142 I/O (A14) (140) (io), 143 I/O, GCK8 (A15) (143) (io)
part B pins: 1 GND (power), 6 I/O, TDI (158) (io), 7 I/O, TCK (161) (io), 8 GND (power), 11 I/O, TMS (188) (io), 17 GND (power), 18 VCC (power), 27 GND (power), 34 O (M1) (290) (io), 35 GND (power), 36 I (M0) (293) (in), 37 VCC (power), 38 I (M2) (294) (in), 45 GND (power), 54 VCC (power), 55 GND (power), 64 GND (power), 71 GND (power), 72 DONE (io), 73 VCC (power), 74 ~{PROGRAM} (in), 81 GND (power), 90 VCC (power), 91 GND (power), 100 GND (power), 107 CCLK (io), 108 VCC (power), 109 O, TDO (0) (hiz), 110 GND (power), 118 GND (power), 127 GND (power), 128 VCC (power), 137 GND (power), 144 VCC (power)

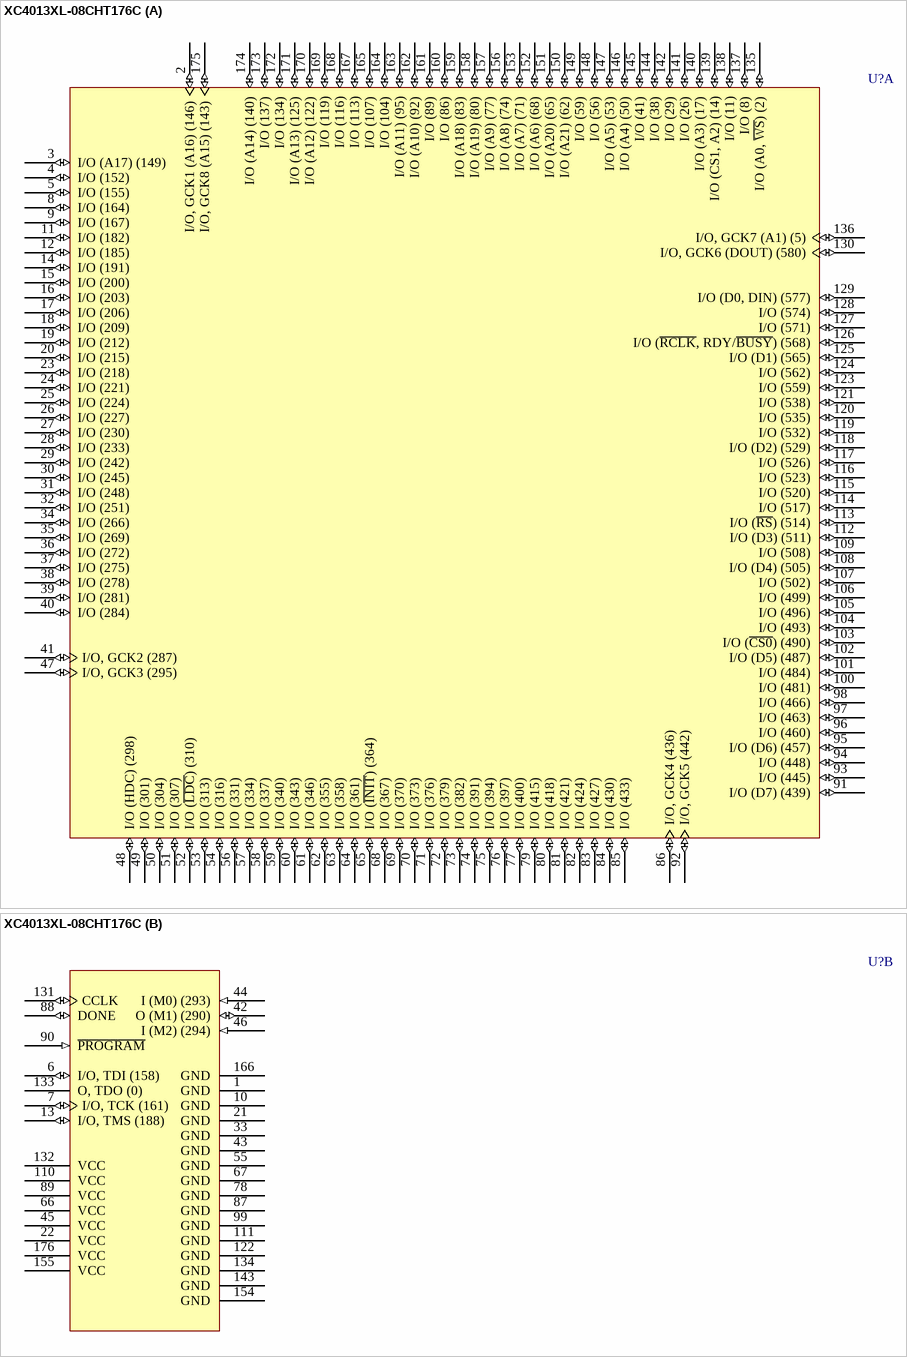
[diagram p106: symbol XC4013XL-08CHT176C]

## XC4013XL-08CHT176C
designator U?
XC4000XL FPGA, 145 I/Os, 176-Pin HTQFP, Speed Grade 8, Commercial Grade; Published: 28-Feb-2003; LatestRevisionDate: 13-Apr-2006; LatestRevisionNote: IPC-7351 Footprint Added.; DatasheetVersion: ver1.6, May-1999; PackageVersion: ver1.2, Jun-2004; PackageReference: HT176; Publisher: Altium Limited; PackageDescription: 176-Pin Heat Sink Thin Quad Flat Pack (HT176); ComponentLink1Description: XC4000XL Datasheet; ComponentLink1URL: http://www.xilinx.com/support/documentation/data_sheets/4000.pdf; ComponentLink2Description: Discontinuation Notice; ComponentLink2URL: http://www.xilinx.com/support/documentation/customer_notices/pdn2001-03.pdf; ComponentLink3Description: HT176 Package Drawing; ComponentLink3URL: http://www.xilinx.com/support/documentation/package_specs/ht176.pdf; ComponentLink4Description: XC4000 Documents; ComponentLink4URL: http://www.xilinx.com/support/documentation/xc4000.htm; ComponentLink5Description: Xilinx.com Home; ComponentLink5URL: http://www.xilinx.com
footprint HT176_N (Thin QFP, 176-Leads, Body 24x24mm, Pitch 0.5mm, IPC Medium Density)
footprint HT176_L (Thin QFP, 176-Leads, Body 24x24mm, Pitch 0.5mm, IPC High Density)
footprint HT176_M (Thin QFP, 176-Leads, Body 24x24mm, Pitch 0.5mm, IPC Low Density)
part A pins: 2 I/O, GCK1 (A16) (146) (io), 3 I/O (A17) (149) (io), 4 I/O (152) (io), 5 I/O (155) (io), 8 I/O (164) (io), 9 I/O (167) (io), 11 I/O (182) (io), 12 I/O (185) (io), 14 I/O (191) (io), 15 I/O (200) (io), 16 I/O (203) (io), 17 I/O (206) (io), 18 I/O (209) (io), 19 I/O (212) (io), 20 I/O (215) (io), 23 I/O (218) (io), 24 I/O (221) (io), 25 I/O (224) (io), 26 I/O (227) (io), 27 I/O (230) (io), 28 I/O (233) (io), 29 I/O (242) (io), 30 I/O (245) (io), 31 I/O (248) (io), 32 I/O (251) (io), 34 I/O (266) (io), 35 I/O (269) (io), 36 I/O (272) (io), 37 I/O (275) (io), 38 I/O (278) (io), 39 I/O (281) (io), 40 I/O (284) (io), 41 I/O, GCK2 (287) (io), 47 I/O, GCK3 (295) (io), 48 I/O (HDC) (298) (io), 49 I/O (301) (io), 50 I/O (304) (io), 51 I/O (307) (io), 52 I/O (~{LDC}) (310) (io), 53 I/O (313) (io), 54 I/O (316) (io), 56 I/O (331) (io), 57 I/O (334) (io), 58 I/O (337) (io), 59 I/O (340) (io), 60 I/O (343) (io), 61 I/O (346) (io), 62 I/O (355) (io), 63 I/O (358) (io), 64 I/O (361) (io), 65 I/O (~{INIT}) (364) (io), 68 I/O (367) (io), 69 I/O (370) (io), 70 I/O (373) (io), 71 I/O (376) (io), 72 I/O (379) (io), 73 I/O (382) (io), 74 I/O (391) (io), 75 I/O (394) (io), 76 I/O (397) (io), 77 I/O (400) (io), 79 I/O (415) (io), 80 I/O (418) (io), 81 I/O (421) (io), 82 I/O (424) (io), 83 I/O (427) (io), 84 I/O (430) (io), 85 I/O (433) (io), 86 I/O, GCK4 (436) (io), 91 I/O (D7) (439) (io), 92 I/O, GCK5 (442) (io), 93 I/O (445) (io), 94 I/O (448) (io), 95 I/O (D6) (457) (io), 96 I/O (460) (io), 97 I/O (463) (io), 98 I/O (466) (io), 100 I/O (481) (io), 101 I/O (484) (io), 102 I/O (D5) (487) (io), 103 I/O (~{CS0}) (490) (io), 104 I/O (493) (io), 105 I/O (496) (io), 106 I/O (499) (io), 107 I/O (502) (io), 108 I/O (D4) (505) (io), 109 I/O (508) (io), 112 I/O (D3) (511) (io), 113 I/O (~{RS}) (514) (io), 114 I/O (517) (io), 115 I/O (520) (io), 116 I/O (523) (io), 117 I/O (526) (io), 118 I/O (D2) (529) (io), 119 I/O (532) (io), 120 I/O (535) (io), 121 I/O (538) (io), 123 I/O (559) (io), 124 I/O (562) (io), 125 I/O (D1) (565) (io), 126 I/O (~{RCLK}, RDY/~{BUSY}) (568) (io), 127 I/O (571) (io), 128 I/O (574) (io), 129 I/O (D0, DIN) (577) (io), 130 I/O, GCK6 (DOUT) (580) (io), 135 I/O (A0, ~{WS}) (2) (io), 136 I/O, GCK7 (A1) (5) (io), 137 I/O (8) (io), 138 I/O (11) (io), 139 I/O (CS1, A2) (14) (io), 140 I/O (A3) (17) (io), 141 I/O (26) (io), 142 I/O (29) (io), 144 I/O (38) (io), 145 I/O (41) (io), 146 I/O (A4) (50) (io), 147 I/O (A5) (53) (io), 148 I/O (56) (io), 149 I/O (59) (io), 150 I/O (A21) (62) (io), 151 I/O (A20) (65) (io), 152 I/O (A6) (68) (io), 153 I/O (A7) (71) (io), 156 I/O (A8) (74) (io), 157 I/O (A9) (77) (io), 158 I/O (A19) (80) (io), 159 I/O (A18) (83) (io), 160 I/O (86) (io), 161 I/O (89) (io), 162 I/O (A10) (92) (io), 163 I/O (A11) (95) (io), 164 I/O (104) (io), 165 I/O (107) (io), 167 I/O (113) (io), 168 I/O (116) (io), 169 I/O (119) (io), 170 I/O (A12) (122) (io), 171 I/O (A13) (125) (io), 172 I/O (134) (io), 173 I/O (137) (io), 174 I/O (A14) (140) (io), 175 I/O, GCK8 (A15) (143) (io)
part B pins: 1 GND (power), 6 I/O, TDI (158) (io), 7 I/O, TCK (161) (io), 10 GND (power), 13 I/O, TMS (188) (io), 21 GND (power), 22 VCC (power), 33 GND (power), 42 O (M1) (290) (io), 43 GND (power), 44 I (M0) (293) (in), 45 VCC (power), 46 I (M2) (294) (in), 55 GND (power), 66 VCC (power), 67 GND (power), 78 GND (power), 87 GND (power), 88 DONE (io), 89 VCC (power), 90 ~{PROGRAM} (in), 99 GND (power), 110 VCC (power), 111 GND (power), 122 GND (power), 131 CCLK (io), 132 VCC (power), 133 O, TDO (0) (hiz), 134 GND (power), 143 GND (power), 154 GND (power), 155 VCC (power), 166 GND (power), 176 VCC (power)

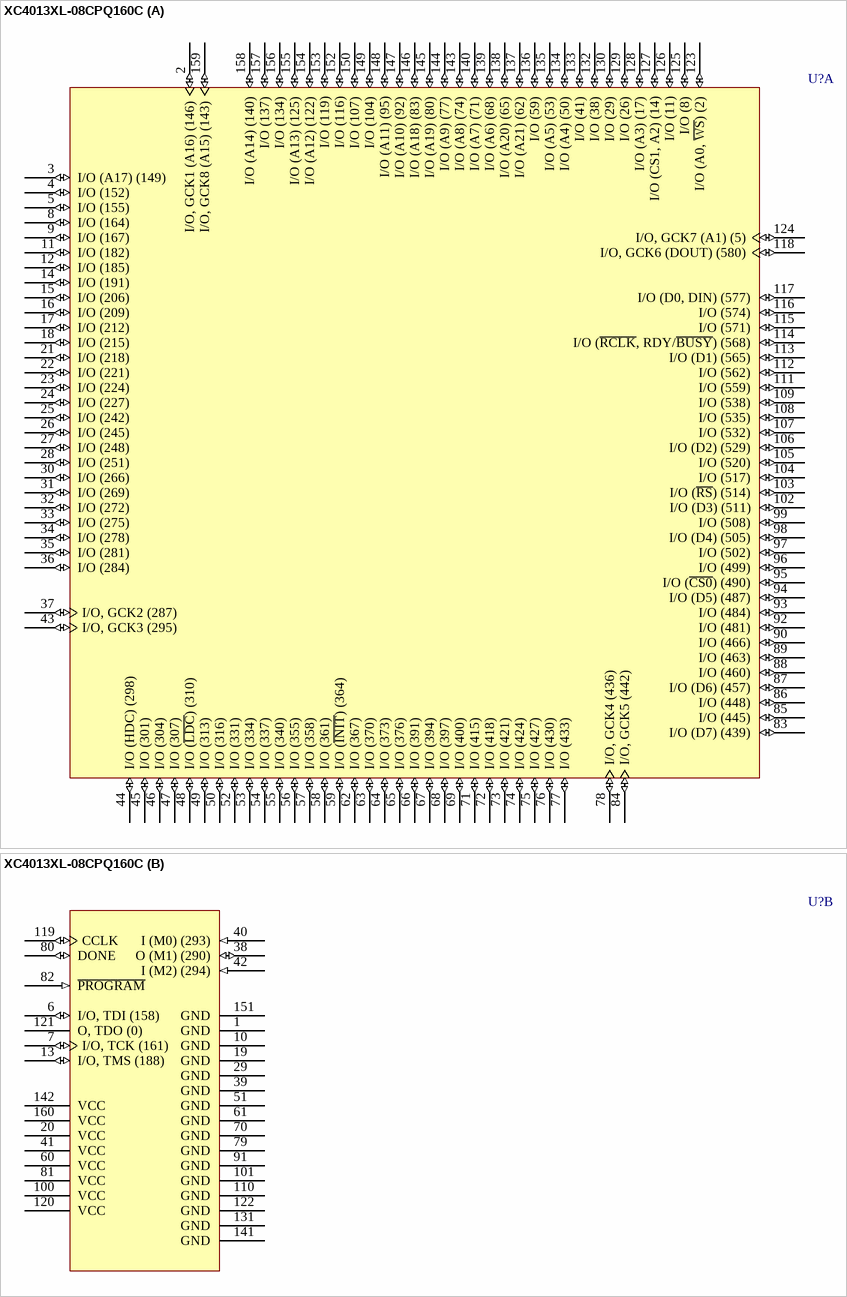
[diagram p107: symbol XC4013XL-08CPQ160C]

## XC4013XL-08CPQ160C
designator U?
XC4000XL FPGA, 129 I/Os, 160-Pin PQFP, Speed Grade 8, Commercial Grade; Published: 28-Feb-2003; LatestRevisionDate: 13-Apr-2006; LatestRevisionNote: IPC-7351 Footprint Added.; DatasheetVersion: ver1.6, May-1999; PackageVersion: ver1.2, Jun-2004; PackageReference: PQ160; Publisher: Altium Limited; PackageDescription: 160-Pin Plastic Quad Flat Pack (PQ160); Code_JEDEC: MS-022-DD1; Code_IPC: QFP65P3120X3120-160; ComponentLink1Description: XC4000XL Datasheet; ComponentLink1URL: http://www.xilinx.com/support/documentation/data_sheets/4000.pdf; ComponentLink2Description: Discontinuation Notice; ComponentLink2URL: http://www.xilinx.com/support/documentation/customer_notices/pdn2001-03.pdf; ComponentLink3Description: PQ160 Package Drawing; ComponentLink3URL: http://www.xilinx.com/support/documentation/package_specs/pq160.pdf; ComponentLink4Description: XC4000 Documents; ComponentLink4URL: http://www.xilinx.com/support/documentation/xc4000.htm; ComponentLink5Description: Xilinx.com Home; ComponentLink5URL: http://www.xilinx.com
footprint PQ160_N (QFP, 160-Leads, Body 28x28mm, Pitch 0.65mm, IPC Medium Density)
footprint PQ160_L (QFP, 160-Leads, Body 28x28mm, Pitch 0.65mm, IPC High Density)
footprint PQ160_M (QFP, 160-Leads, Body 28x28mm, Pitch 0.65mm, IPC Low Density)
part A pins: 2 I/O, GCK1 (A16) (146) (io), 3 I/O (A17) (149) (io), 4 I/O (152) (io), 5 I/O (155) (io), 8 I/O (164) (io), 9 I/O (167) (io), 11 I/O (182) (io), 12 I/O (185) (io), 14 I/O (191) (io), 15 I/O (206) (io), 16 I/O (209) (io), 17 I/O (212) (io), 18 I/O (215) (io), 21 I/O (218) (io), 22 I/O (221) (io), 23 I/O (224) (io), 24 I/O (227) (io), 25 I/O (242) (io), 26 I/O (245) (io), 27 I/O (248) (io), 28 I/O (251) (io), 30 I/O (266) (io), 31 I/O (269) (io), 32 I/O (272) (io), 33 I/O (275) (io), 34 I/O (278) (io), 35 I/O (281) (io), 36 I/O (284) (io), 37 I/O, GCK2 (287) (io), 43 I/O, GCK3 (295) (io), 44 I/O (HDC) (298) (io), 45 I/O (301) (io), 46 I/O (304) (io), 47 I/O (307) (io), 48 I/O (~{LDC}) (310) (io), 49 I/O (313) (io), 50 I/O (316) (io), 52 I/O (331) (io), 53 I/O (334) (io), 54 I/O (337) (io), 55 I/O (340) (io), 56 I/O (355) (io), 57 I/O (358) (io), 58 I/O (361) (io), 59 I/O (~{INIT}) (364) (io), 62 I/O (367) (io), 63 I/O (370) (io), 64 I/O (373) (io), 65 I/O (376) (io), 66 I/O (391) (io), 67 I/O (394) (io), 68 I/O (397) (io), 69 I/O (400) (io), 71 I/O (415) (io), 72 I/O (418) (io), 73 I/O (421) (io), 74 I/O (424) (io), 75 I/O (427) (io), 76 I/O (430) (io), 77 I/O (433) (io), 78 I/O, GCK4 (436) (io), 83 I/O (D7) (439) (io), 84 I/O, GCK5 (442) (io), 85 I/O (445) (io), 86 I/O (448) (io), 87 I/O (D6) (457) (io), 88 I/O (460) (io), 89 I/O (463) (io), 90 I/O (466) (io), 92 I/O (481) (io), 93 I/O (484) (io), 94 I/O (D5) (487) (io), 95 I/O (~{CS0}) (490) (io), 96 I/O (499) (io), 97 I/O (502) (io), 98 I/O (D4) (505) (io), 99 I/O (508) (io), 102 I/O (D3) (511) (io), 103 I/O (~{RS}) (514) (io), 104 I/O (517) (io), 105 I/O (520) (io), 106 I/O (D2) (529) (io), 107 I/O (532) (io), 108 I/O (535) (io), 109 I/O (538) (io), 111 I/O (559) (io), 112 I/O (562) (io), 113 I/O (D1) (565) (io), 114 I/O (~{RCLK}, RDY/~{BUSY}) (568) (io), 115 I/O (571) (io), 116 I/O (574) (io), 117 I/O (D0, DIN) (577) (io), 118 I/O, GCK6 (DOUT) (580) (io), 123 I/O (A0, ~{WS}) (2) (io), 124 I/O, GCK7 (A1) (5) (io), 125 I/O (8) (io), 126 I/O (11) (io), 127 I/O (CS1, A2) (14) (io), 128 I/O (A3) (17) (io), 129 I/O (26) (io), 130 I/O (29) (io), 132 I/O (38) (io), 133 I/O (41) (io), 134 I/O (A4) (50) (io), 135 I/O (A5) (53) (io), 136 I/O (59) (io), 137 I/O (A21) (62) (io), 138 I/O (A20) (65) (io), 139 I/O (A6) (68) (io), 140 I/O (A7) (71) (io), 143 I/O (A8) (74) (io), 144 I/O (A9) (77) (io), 145 I/O (A19) (80) (io), 146 I/O (A18) (83) (io), 147 I/O (A10) (92) (io), 148 I/O (A11) (95) (io), 149 I/O (104) (io), 150 I/O (107) (io), 152 I/O (116) (io), 153 I/O (119) (io), 154 I/O (A12) (122) (io), 155 I/O (A13) (125) (io), 156 I/O (134) (io), 157 I/O (137) (io), 158 I/O (A14) (140) (io), 159 I/O, GCK8 (A15) (143) (io)
part B pins: 1 GND (power), 6 I/O, TDI (158) (io), 7 I/O, TCK (161) (io), 10 GND (power), 13 I/O, TMS (188) (io), 19 GND (power), 20 VCC (power), 29 GND (power), 38 O (M1) (290) (io), 39 GND (power), 40 I (M0) (293) (in), 41 VCC (power), 42 I (M2) (294) (in), 51 GND (power), 60 VCC (power), 61 GND (power), 70 GND (power), 79 GND (power), 80 DONE (io), 81 VCC (power), 82 ~{PROGRAM} (in), 91 GND (power), 100 VCC (power), 101 GND (power), 110 GND (power), 119 CCLK (io), 120 VCC (power), 121 O, TDO (0) (hiz), 122 GND (power), 131 GND (power), 141 GND (power), 142 VCC (power), 151 GND (power), 160 VCC (power)

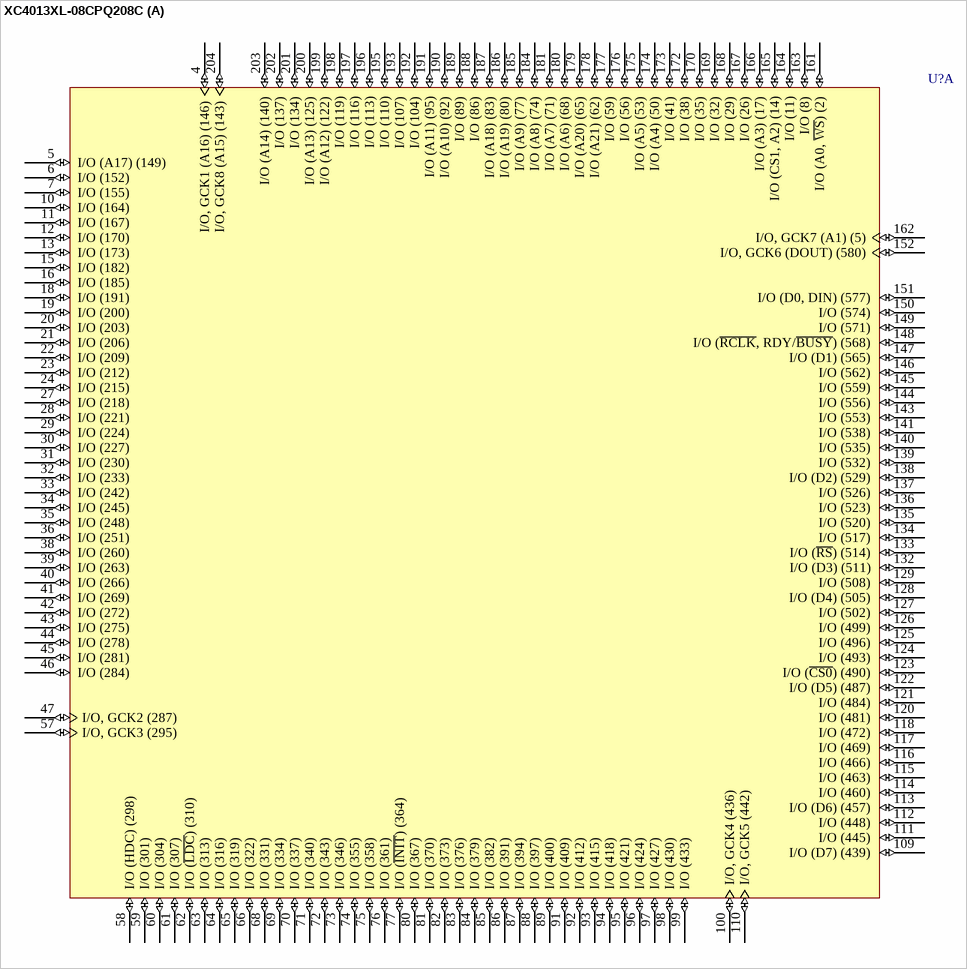
[diagram p108: symbol XC4013XL-08CPQ208C]

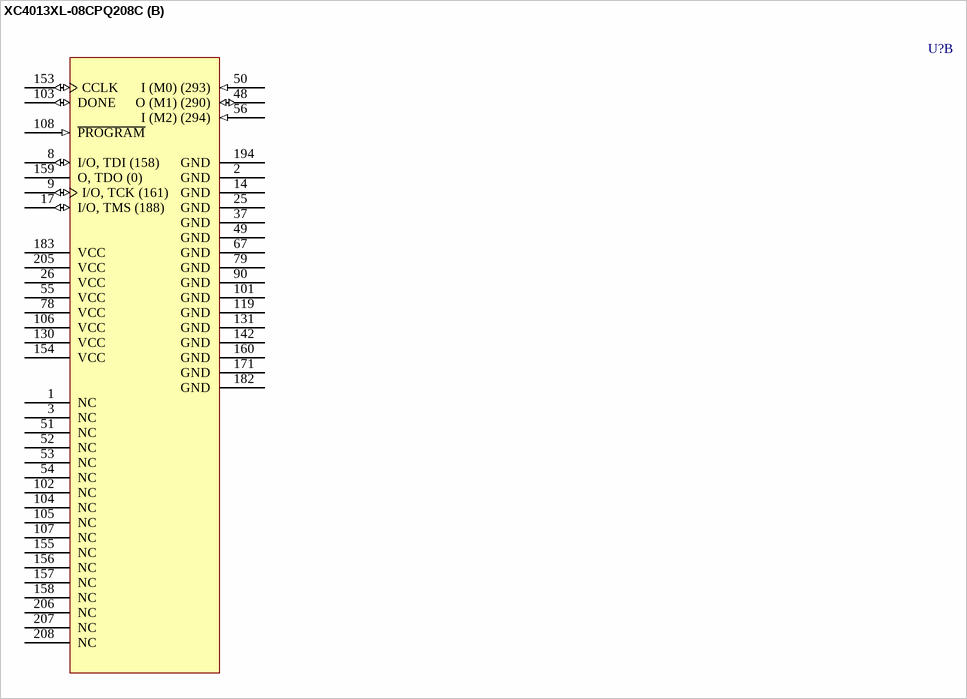
[diagram p109: symbol XC4013XL-08CPQ208C]

## XC4013XL-08CPQ208C
designator U?
XC4000XL FPGA, 160 I/Os, 208-Pin PQFP, Speed Grade 8, Commercial Grade; Published: 28-Feb-2003; LatestRevisionDate: 13-Apr-2006; LatestRevisionNote: IPC-7351 Footprint Added.; DatasheetVersion: ver1.6, May-1999; PackageVersion: ver1.2, Jun-2004; PackageReference: PQ208; Publisher: Altium Limited; PackageDescription: 208-Pin Plastic Quad Flat Pack (PQ208); Code_JEDEC: MS-029-FA-1; ComponentLink1Description: XC4000XL Datasheet; ComponentLink1URL: http://www.xilinx.com/support/documentation/data_sheets/4000.pdf; ComponentLink2Description: Discontinuation Notice; ComponentLink2URL: http://www.xilinx.com/support/documentation/customer_notices/pdn2001-03.pdf; ComponentLink3Description: PQ208 Package Drawing; ComponentLink3URL: http://www.xilinx.com/support/documentation/package_specs/pq208.pdf; ComponentLink4Description: XC4000 Documents; ComponentLink4URL: http://www.xilinx.com/support/documentation/xc4000.htm; ComponentLink5Description: Xilinx.com Home; ComponentLink5URL: http://www.xilinx.com
footprint PQ208_N (Shrink QFP, 208-Leads, Body 28x28mm, Pitch 0.5mm, IPC Medium Density)
footprint PQ208_L (Shrink QFP, 208-Leads, Body 28x28mm, Pitch 0.5mm, IPC High Density)
footprint PQ208_M (Shrink QFP, 208-Leads, Body 28x28mm, Pitch 0.5mm, IPC Low Density)
part A pins: 4 I/O, GCK1 (A16) (146) (io), 5 I/O (A17) (149) (io), 6 I/O (152) (io), 7 I/O (155) (io), 10 I/O (164) (io), 11 I/O (167) (io), 12 I/O (170) (io), 13 I/O (173) (io), 15 I/O (182) (io), 16 I/O (185) (io), 18 I/O (191) (io), 19 I/O (200) (io), 20 I/O (203) (io), 21 I/O (206) (io), 22 I/O (209) (io), 23 I/O (212) (io), 24 I/O (215) (io), 27 I/O (218) (io), 28 I/O (221) (io), 29 I/O (224) (io), 30 I/O (227) (io), 31 I/O (230) (io), 32 I/O (233) (io), 33 I/O (242) (io), 34 I/O (245) (io), 35 I/O (248) (io), 36 I/O (251) (io), 38 I/O (260) (io), 39 I/O (263) (io), 40 I/O (266) (io), 41 I/O (269) (io), 42 I/O (272) (io), 43 I/O (275) (io), 44 I/O (278) (io), 45 I/O (281) (io), 46 I/O (284) (io), 47 I/O, GCK2 (287) (io), 57 I/O, GCK3 (295) (io), 58 I/O (HDC) (298) (io), 59 I/O (301) (io), 60 I/O (304) (io), 61 I/O (307) (io), 62 I/O (~{LDC}) (310) (io), 63 I/O (313) (io), 64 I/O (316) (io), 65 I/O (319) (io), 66 I/O (322) (io), 68 I/O (331) (io), 69 I/O (334) (io), 70 I/O (337) (io), 71 I/O (340) (io), 72 I/O (343) (io), 73 I/O (346) (io), 74 I/O (355) (io), 75 I/O (358) (io), 76 I/O (361) (io), 77 I/O (~{INIT}) (364) (io), 80 I/O (367) (io), 81 I/O (370) (io), 82 I/O (373) (io), 83 I/O (376) (io), 84 I/O (379) (io), 85 I/O (382) (io), 86 I/O (391) (io), 87 I/O (394) (io), 88 I/O (397) (io), 89 I/O (400) (io), 91 I/O (409) (io), 92 I/O (412) (io), 93 I/O (415) (io), 94 I/O (418) (io), 95 I/O (421) (io), 96 I/O (424) (io), 97 I/O (427) (io), 98 I/O (430) (io), 99 I/O (433) (io), 100 I/O, GCK4 (436) (io), 109 I/O (D7) (439) (io), 110 I/O, GCK5 (442) (io), 111 I/O (445) (io), 112 I/O (448) (io), 113 I/O (D6) (457) (io), 114 I/O (460) (io), 115 I/O (463) (io), 116 I/O (466) (io), 117 I/O (469) (io), 118 I/O (472) (io), 120 I/O (481) (io), 121 I/O (484) (io), 122 I/O (D5) (487) (io), 123 I/O (~{CS0}) (490) (io), 124 I/O (493) (io), 125 I/O (496) (io), 126 I/O (499) (io), 127 I/O (502) (io), 128 I/O (D4) (505) (io), 129 I/O (508) (io), 132 I/O (D3) (511) (io), 133 I/O (~{RS}) (514) (io), 134 I/O (517) (io), 135 I/O (520) (io), 136 I/O (523) (io), 137 I/O (526) (io), 138 I/O (D2) (529) (io), 139 I/O (532) (io), 140 I/O (535) (io), 141 I/O (538) (io), 143 I/O (553) (io), 144 I/O (556) (io), 145 I/O (559) (io), 146 I/O (562) (io), 147 I/O (D1) (565) (io), 148 I/O (~{RCLK}, RDY/~{BUSY}) (568) (io), 149 I/O (571) (io), 150 I/O (574) (io), 151 I/O (D0, DIN) (577) (io), 152 I/O, GCK6 (DOUT) (580) (io), 161 I/O (A0, ~{WS}) (2) (io), 162 I/O, GCK7 (A1) (5) (io), 163 I/O (8) (io), 164 I/O (11) (io), 165 I/O (CS1, A2) (14) (io), 166 I/O (A3) (17) (io), 167 I/O (26) (io), 168 I/O (29) (io), 169 I/O (32) (io), 170 I/O (35) (io), 172 I/O (38) (io), 173 I/O (41) (io), 174 I/O (A4) (50) (io), 175 I/O (A5) (53) (io), 176 I/O (56) (io), 177 I/O (59) (io), 178 I/O (A21) (62) (io), 179 I/O (A20) (65) (io), 180 I/O (A6) (68) (io), 181 I/O (A7) (71) (io), 184 I/O (A8) (74) (io), 185 I/O (A9) (77) (io), 186 I/O (A19) (80) (io), 187 I/O (A18) (83) (io), 188 I/O (86) (io), 189 I/O (89) (io), 190 I/O (A10) (92) (io), 191 I/O (A11) (95) (io), 192 I/O (104) (io), 193 I/O (107) (io), 195 I/O (110) (io), 196 I/O (113) (io), 197 I/O (116) (io), 198 I/O (119) (io), 199 I/O (A12) (122) (io), 200 I/O (A13) (125) (io), 201 I/O (134) (io), 202 I/O (137) (io), 203 I/O (A14) (140) (io), 204 I/O, GCK8 (A15) (143) (io)
part B pins: 1 NC, 2 GND (power), 3 NC, 8 I/O, TDI (158) (io), 9 I/O, TCK (161) (io), 14 GND (power), 17 I/O, TMS (188) (io), 25 GND (power), 26 VCC (power), 37 GND (power), 48 O (M1) (290) (io), 49 GND (power), 50 I (M0) (293) (in), 51 NC, 52 NC, 53 NC, 54 NC, 55 VCC (power), 56 I (M2) (294) (in), 67 GND (power), 78 VCC (power), 79 GND (power), 90 GND (power), 101 GND (power), 102 NC, 103 DONE (io), 104 NC, 105 NC, 106 VCC (power), 107 NC, 108 ~{PROGRAM} (in), 119 GND (power), 130 VCC (power), 131 GND (power), 142 GND (power), 153 CCLK (io), 154 VCC (power), 155 NC, 156 NC, 157 NC, 158 NC, 159 O, TDO (0) (hiz), 160 GND (power), 171 GND (power), 182 GND (power), 183 VCC (power), 194 GND (power), 205 VCC (power), 206 NC, 207 NC, 208 NC

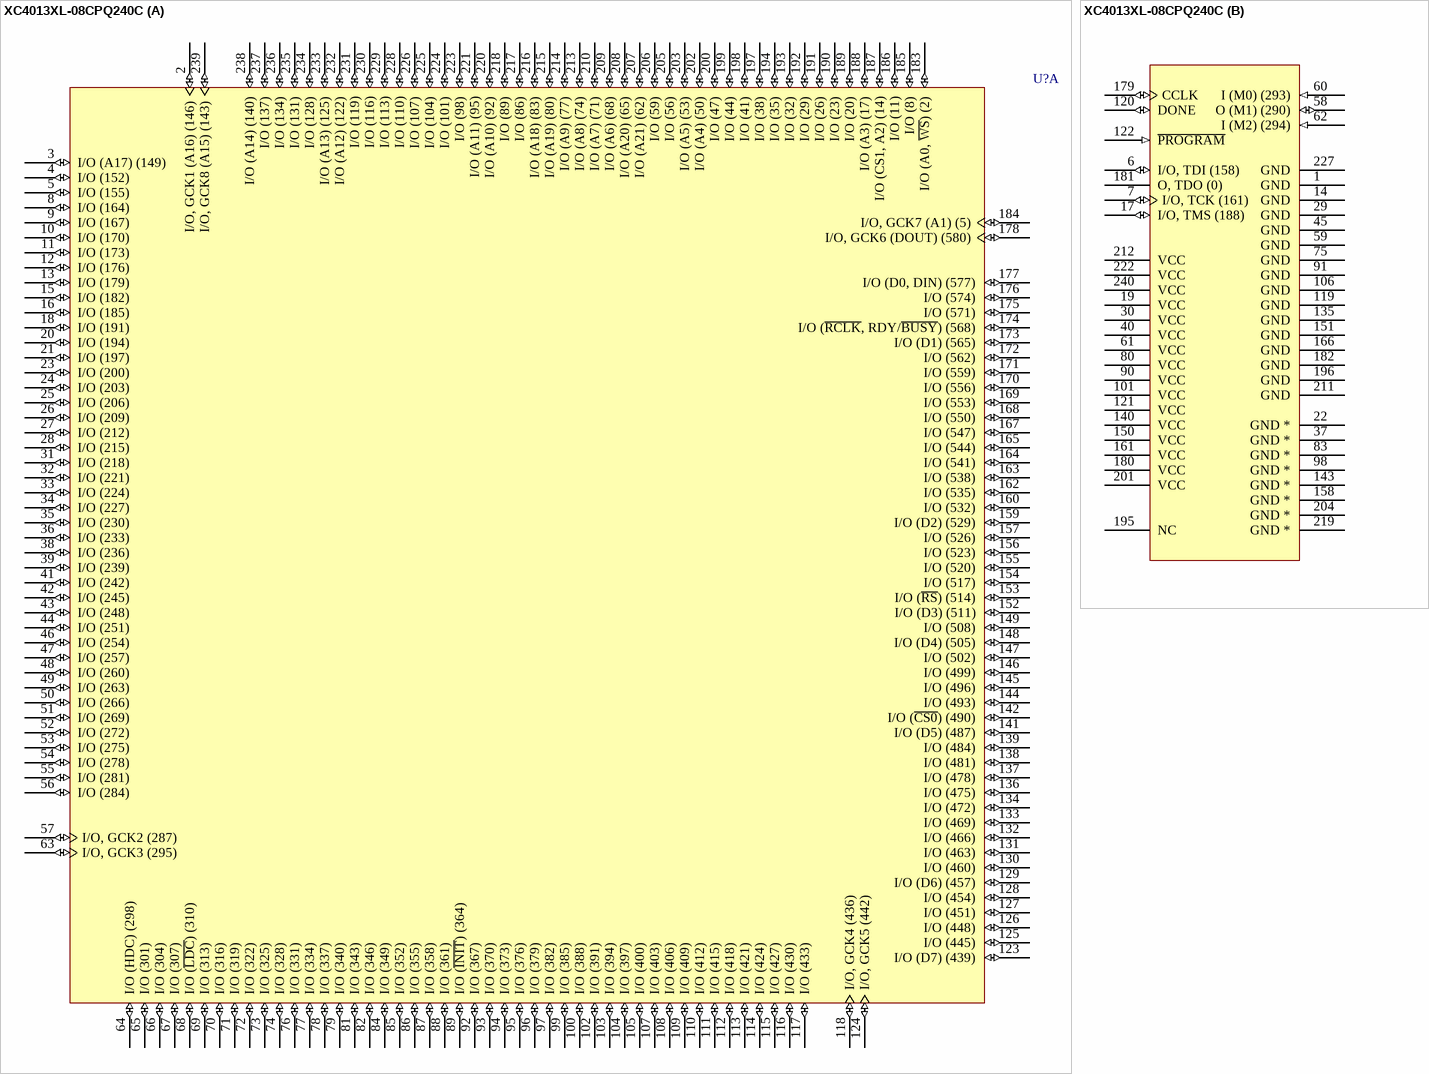
[diagram p110: symbol XC4013XL-08CPQ240C]